# Altium schematic symbol library CHXXX.schlib: 489 symbols (part 3 of 7)
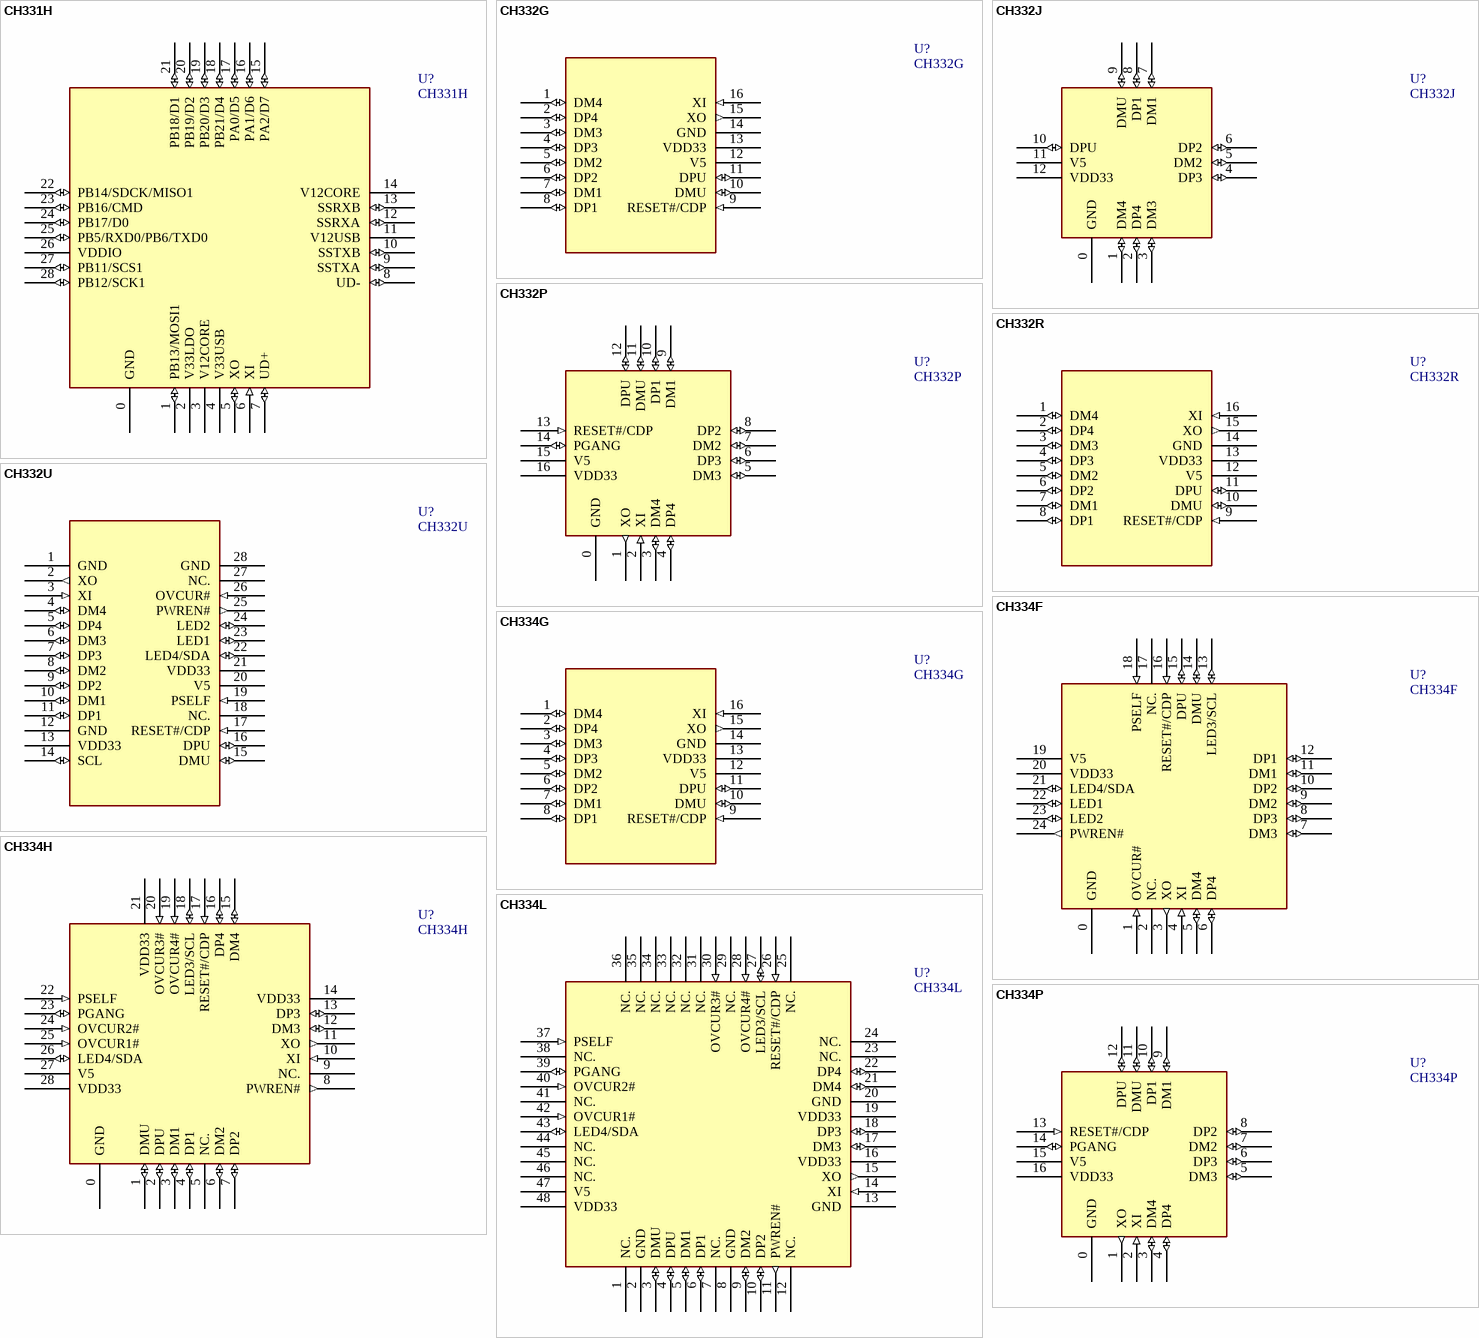
[diagram p64: symbols CH331H to CH334P]

## CH332P
designator U?
4 ports High-Speed USB STT Hub
footprint QFN16_3X3 (Footprint not found)
pins: 0 GND (power), 1 XO (out), 2 XI (in), 3 DM4 (io), 4 DP4 (io), 5 DM3 (io), 6 DP3 (io), 7 DM2 (io), 8 DP2 (io), 9 DM1 (io), 10 DP1 (io), 11 DMU (io), 12 DPU (io), 13 RESET#/CDP (in), 14 PGANG (io), 15 V5 (power), 16 VDD33 (power)
2 alternate drawings of the same symbol

## CH332R
designator U?
4 ports High-Speed USB STT Hub
footprint QSOP16 (Footprint not found)
pins: 1 DM4 (io), 2 DP4 (io), 3 DM3 (io), 4 DP3 (io), 5 DM2 (io), 6 DP2 (io), 7 DM1 (io), 8 DP1 (io), 9 RESET#/CDP (in), 10 DMU (io), 11 DPU (io), 12 V5 (power), 13 VDD33 (power), 14 GND (power), 15 XO (out), 16 XI (in)
2 alternate drawings of the same symbol

## CH332U
designator U?
4 ports High-Speed USB STT Hub with over current detect & power control
footprint QSOP28 (Footprint not found)
pins: 1 GND (power), 2 XO (out), 3 XI (in), 4 DM4 (io), 5 DP4 (io), 6 DM3 (io), 7 DP3 (io), 8 DM2 (io), 9 DP2 (io), 10 DM1 (io), 11 DP1 (io), 12 GND (power), 13 VDD33 (power), 14 SCL (io), 15 DMU (io), 16 DPU (io), 17 RESET#/CDP (in), 18 NC., 19 PSELF (in), 20 V5 (power), 21 VDD33 (power), 22 LED4/SDA (io), 23 LED1 (io), 24 LED2 (io), 25 PWREN# (out), 26 OVCUR# (in), 27 NC., 28 GND (power)
2 alternate drawings of the same symbol

## CH334F
designator U?
4 ports High-Speed USB MTT Hub with over current detect & power control
footprint QFN24_4X4 (Footprint not found)
pins: 0 GND (power), 1 OVCUR# (in), 2 NC., 3 XO (out), 4 XI (in), 5 DM4 (io), 6 DP4 (io), 7 DM3 (io), 8 DP3 (io), 9 DM2 (io), 10 DP2 (io), 11 DM1 (io), 12 DP1 (io), 13 LED3/SCL (io), 14 DMU (io), 15 DPU (io), 16 RESET#/CDP (in), 17 NC., 18 PSELF (in), 19 V5 (power), 20 VDD33 (power), 21 LED4/SDA (io), 22 LED1 (io), 23 LED2 (io), 24 PWREN# (out)
2 alternate drawings of the same symbol

## CH334G
designator U?
4 ports High-Speed USB STT Hub
footprint SOP16 (Footprint not found)
pins: 1 DM4 (io), 2 DP4 (io), 3 DM3 (io), 4 DP3 (io), 5 DM2 (io), 6 DP2 (io), 7 DM1 (io), 8 DP1 (io), 9 RESET#/CDP (in), 10 DMU (io), 11 DPU (io), 12 V5 (power), 13 VDD33 (power), 14 GND (power), 15 XO (out), 16 XI (in)
2 alternate drawings of the same symbol

## CH334H
designator U?
4 ports High-Speed USB MTT Hub with 4 over current detect
footprint QFN28_5X5 (Footprint not found)
pins: 0 GND (power), 1 DMU (io), 2 DPU (io), 3 DM1 (io), 4 DP1 (io), 5 NC., 6 DM2 (io), 7 DP2 (io), 8 PWREN# (out), 9 NC., 10 XI (in), 11 XO (out), 12 DM3 (io), 13 DP3 (io), 14 VDD33 (power), 15 DM4 (io), 16 DP4 (io), 17 RESET#/CDP (in), 18 LED3/SCL (io), 19 OVCUR4# (in), 20 OVCUR3# (in), 21 VDD33 (power), 22 PSELF (in), 23 PGANG (io), 24 OVCUR2# (in), 25 OVCUR1# (in), 26 LED4/SDA (io), 27 V5 (power), 28 VDD33 (power)
2 alternate drawings of the same symbol

## CH334L
designator U?
4 ports High-Speed USB MTT Hub with 4 over current detect
footprint LQFP48 (Footprint not found)
pins: 1 NC., 2 GND (power), 3 DMU (io), 4 DPU (io), 5 DM1 (io), 6 DP1 (io), 7 NC., 8 GND (power), 9 DM2 (io), 10 DP2 (io), 11 PWREN# (out), 12 NC., 13 GND (power), 14 XI (in), 15 XO (out), 16 VDD33 (power), 17 DM3 (io), 18 DP3 (io), 19 VDD33 (power), 20 GND (power), 21 DM4 (io), 22 DP4 (io), 23 NC., 24 NC., 25 NC., 26 RESET#/CDP (in), 27 LED3/SCL (io), 28 OVCUR4# (in), 29 NC., 30 OVCUR3# (in), 31 NC., 32 NC., 33 NC., 34 NC., 35 NC., 36 NC., 37 PSELF (in), 38 NC., 39 PGANG (io), 40 OVCUR2# (in), 41 NC., 42 OVCUR1# (in), 43 LED4/SDA (io), 44 NC., 45 NC., 46 NC., 47 V5 (power), 48 VDD33 (power)
2 alternate drawings of the same symbol

## CH334P
designator U?
4 ports High-Speed USB MTT Hub
footprint QFN16_3X3 (Footprint not found)
pins: 0 GND (power), 1 XO (out), 2 XI (in), 3 DM4 (io), 4 DP4 (io), 5 DM3 (io), 6 DP3 (io), 7 DM2 (io), 8 DP2 (io), 9 DM1 (io), 10 DP1 (io), 11 DMU (io), 12 DPU (io), 13 RESET#/CDP (in), 14 PGANG (io), 15 V5 (power), 16 VDD33 (power)
2 alternate drawings of the same symbol

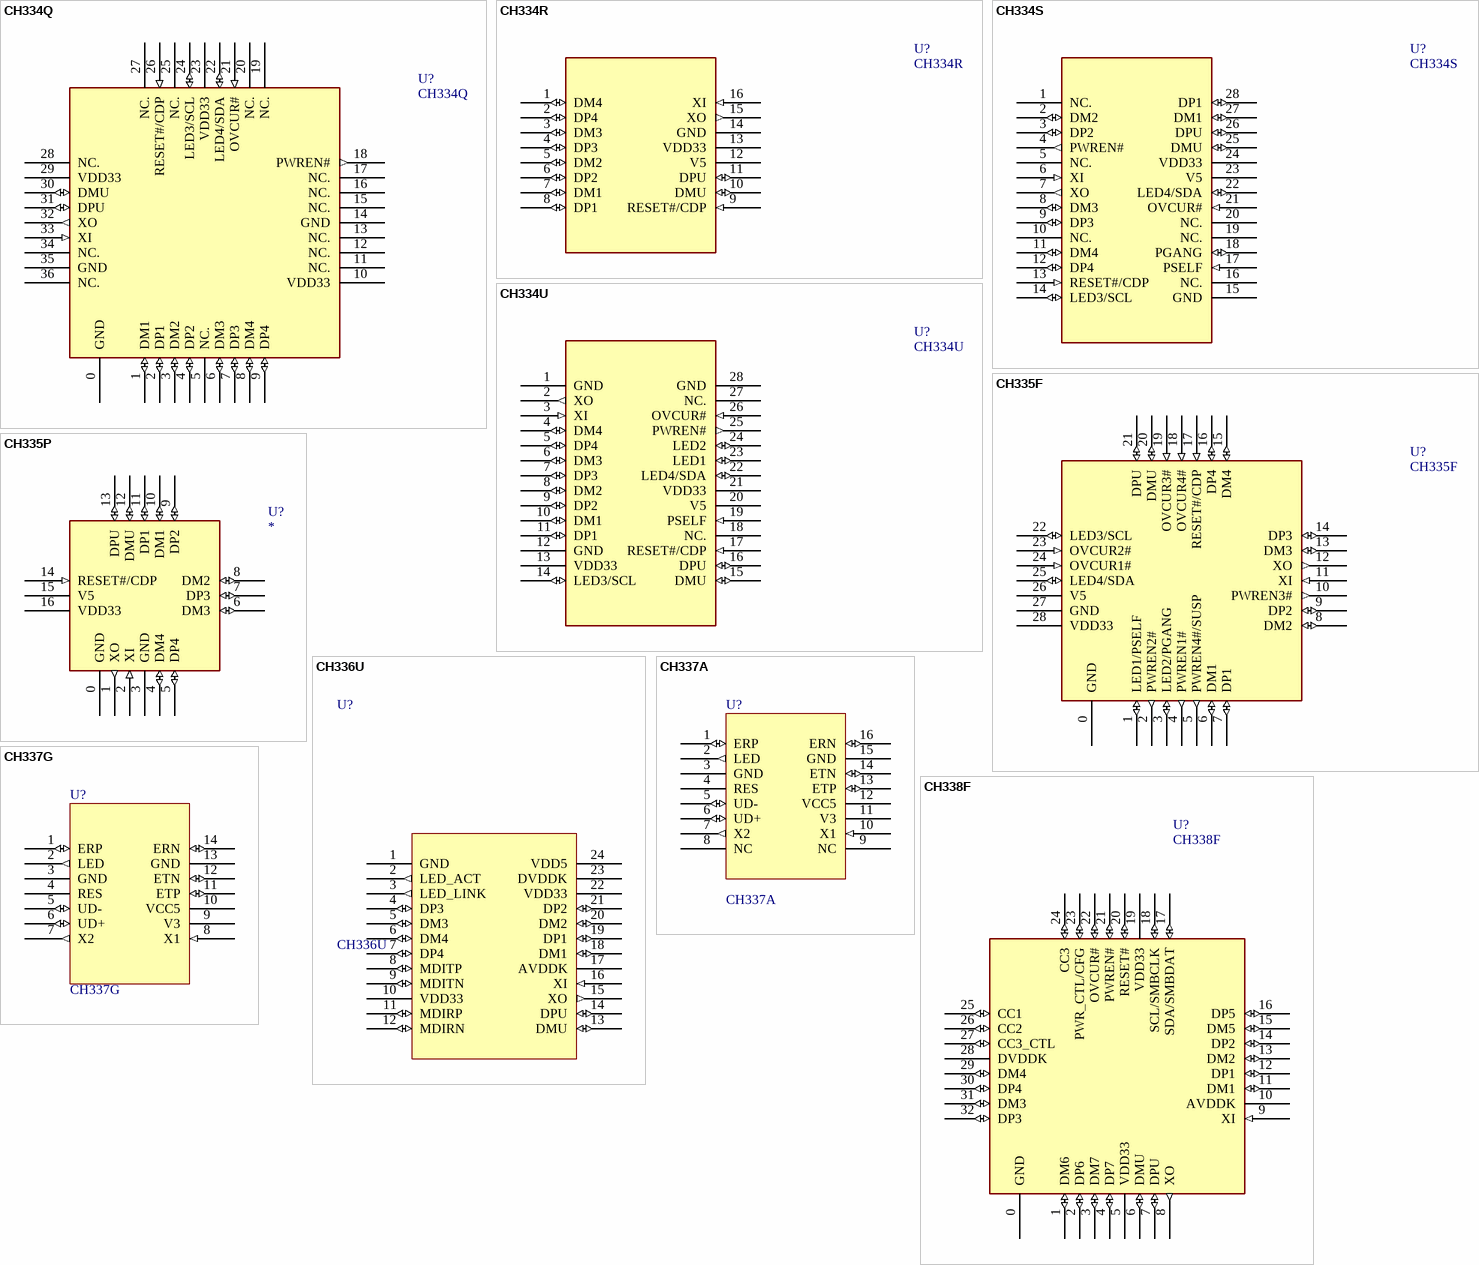
[diagram p19: symbols CH334Q to CH338F]

## CH334Q
designator U?
4 ports High-Speed USB MTT Hub with over current detect & power control
footprint QFN36_6X6
pins: 0 GND (power), 1 DM1 (io), 2 DP1 (io), 3 DM2 (io), 4 DP2 (io), 5 NC., 6 DM3 (io), 7 DP3 (io), 8 DM4 (io), 9 DP4 (io), 10 VDD33 (power), 11 NC., 12 NC., 13 NC., 14 GND (power), 15 NC., 16 NC., 17 NC., 18 PWREN# (out), 19 NC., 20 NC., 21 OVCUR# (in), 22 LED4/SDA (io), 23 VDD33 (power), 24 LED3/SCL (io), 25 NC., 26 RESET#/CDP (in), 27 NC., 28 NC., 29 VDD33 (power), 30 DMU (io), 31 DPU (io), 32 XO (out), 33 XI (in), 34 NC., 35 GND (power), 36 NC.
2 alternate drawings of the same symbol

## CH334R
designator U?
4 ports High-Speed USB MTT Hub
footprint QSOP16 (Footprint not found)
pins: 1 DM4 (io), 2 DP4 (io), 3 DM3 (io), 4 DP3 (io), 5 DM2 (io), 6 DP2 (io), 7 DM1 (io), 8 DP1 (io), 9 RESET#/CDP (in), 10 DMU (io), 11 DPU (io), 12 V5 (power), 13 VDD33 (power), 14 GND (power), 15 XO (out), 16 XI (in)
2 alternate drawings of the same symbol

## CH334S
designator U?
4 ports High-Speed USB MTT Hub with over current detect & power control
footprint SSOP28 (Footprint not found)
pins: 1 NC., 2 DM2 (io), 3 DP2 (io), 4 PWREN# (out), 5 NC., 6 XI (in), 7 XO (out), 8 DM3 (io), 9 DP3 (io), 10 NC., 11 DM4 (io), 12 DP4 (io), 13 RESET#/CDP (in), 14 LED3/SCL (io), 15 GND (power), 16 NC., 17 PSELF (in), 18 PGANG (io), 19 NC., 20 NC., 21 OVCUR# (in), 22 LED4/SDA (io), 23 V5 (power), 24 VDD33 (power), 25 DMU (io), 26 DPU (io), 27 DM1 (io), 28 DP1 (io)
2 alternate drawings of the same symbol

## CH334U
designator U?
4 ports High-Speed USB MTT Hub with over current detect & power control
footprint QSOP28 (Footprint not found)
pins: 1 GND (power), 2 XO (out), 3 XI (in), 4 DM4 (io), 5 DP4 (io), 6 DM3 (io), 7 DP3 (io), 8 DM2 (io), 9 DP2 (io), 10 DM1 (io), 11 DP1 (io), 12 GND (power), 13 VDD33 (power), 14 LED3/SCL (io), 15 DMU (io), 16 DPU (io), 17 RESET#/CDP (in), 18 NC., 19 PSELF (in), 20 V5 (power), 21 VDD33 (power), 22 LED4/SDA (io), 23 LED1 (io), 24 LED2 (io), 25 PWREN# (out), 26 OVCUR# (in), 27 NC., 28 GND (power)
2 alternate drawings of the same symbol

## CH335F
designator U?
4 ports High-Speed USB MTT Hub with 4 over current detect & power control
footprint QFN28_4X4
pins: 0 GND (power), 1 LED1/PSELF (io), 2 PWREN2# (out), 3 LED2/PGANG (io), 4 PWREN1# (out), 5 PWREN4#/SUSP (out), 6 DM1 (io), 7 DP1 (io), 8 DM2 (io), 9 DP2 (io), 10 PWREN3# (out), 11 XI (in), 12 XO (out), 13 DM3 (io), 14 DP3 (io), 15 DM4 (io), 16 DP4 (io), 17 RESET#/CDP (in), 18 OVCUR4# (in), 19 OVCUR3# (in), 20 DMU (io), 21 DPU (io), 22 LED3/SCL (io), 23 OVCUR2# (in), 24 OVCUR1# (in), 25 LED4/SDA (io), 26 V5 (power), 27 GND (power), 28 VDD33 (power)
2 alternate drawings of the same symbol

## CH335P
designator U?
4 ports High-Speed USB MTT Hub with internal oscillator
footprint QFN16C_2X2
pins: 0 GND (power), 1 XO (out), 2 XI (in), 3 GND (power), 4 DM4 (io), 5 DP4 (io), 6 DM3 (io), 7 DP3 (io), 8 DM2 (io), 9 DP2 (io), 10 DM1 (io), 11 DP1 (io), 12 DMU (io), 13 DPU (io), 14 RESET#/CDP (in), 15 V5 (power), 16 VDD33 (power)
2 alternate drawings of the same symbol

## CH336U
designator U?
4 ports High-Speed USB MTT Hub with ethernet
footprint QSOP24
pins: 1 GND (power), 2 LED_ACT (out), 3 LED_LINK (out), 4 DP3 (io), 5 DM3 (io), 6 DM4 (io), 7 DP4 (io), 8 MDITP (io), 9 MDITN (io), 10 VDD33 (power), 11 MDIRP (io), 12 MDIRN (io), 13 DMU (io), 14 DPU (io), 15 XO (out), 16 XI (in), 17 AVDDK (power), 18 DM1 (io), 19 DP1 (io), 20 DM2 (io), 21 DP2 (io), 22 VDD33 (power), 23 DVDDK (power), 24 VDD5 (power)
2 alternate drawings of the same symbol

## CH337A
designator U?
USB to 10Mbps Ethernet
footprint SOP16
pins: 1 ERP (io), 2 LED (out), 3 GND (power), 4 RES, 5 UD- (io), 6 UD+ (io), 7 X2 (out), 8 NC, 9 NC, 10 X1 (in), 11 V3 (power), 12 VCC5 (power), 13 ETP (io), 14 ETN (io), 15 GND (power), 16 ERN (io)

## CH337G
designator U?
USB to 10Mbps Ethernet
footprint SOP14
pins: 1 ERP (io), 2 LED (out), 3 GND (power), 4 RES, 5 UD- (io), 6 UD+ (io), 7 X2 (out), 8 X1 (in), 9 V3 (power), 10 VCC5 (power), 11 ETP (io), 12 ETN (io), 13 GND (power), 14 ERN (io)

## CH338F
designator U?
7 ports High-Speed USB MTT Hub with PD
footprint QFN32_4X4
pins: 0 GND (power), 1 DM6 (io), 2 DP6 (io), 3 DM7 (io), 4 DP7 (io), 5 VDD33 (power), 6 DMU (io), 7 DPU (io), 8 XO (out), 9 XI (in), 10 AVDDK (power), 11 DM1 (io), 12 DP1 (io), 13 DM2 (io), 14 DP2 (io), 15 DM5 (io), 16 DP5 (io), 17 SDA/SMBDAT (io), 18 SCL/SMBCLK (io), 19 VDD33 (power), 20 RESET# (io), 21 PWREN# (io), 22 OVCUR# (io), 23 PWR_CTL/CFG (io), 24 CC3 (io), 25 CC1 (io), 26 CC2 (io), 27 CC3_CTL (io), 28 DVDDK (power), 29 DM4 (io), 30 DP4 (io), 31 DM3 (io), 32 DP3 (io)

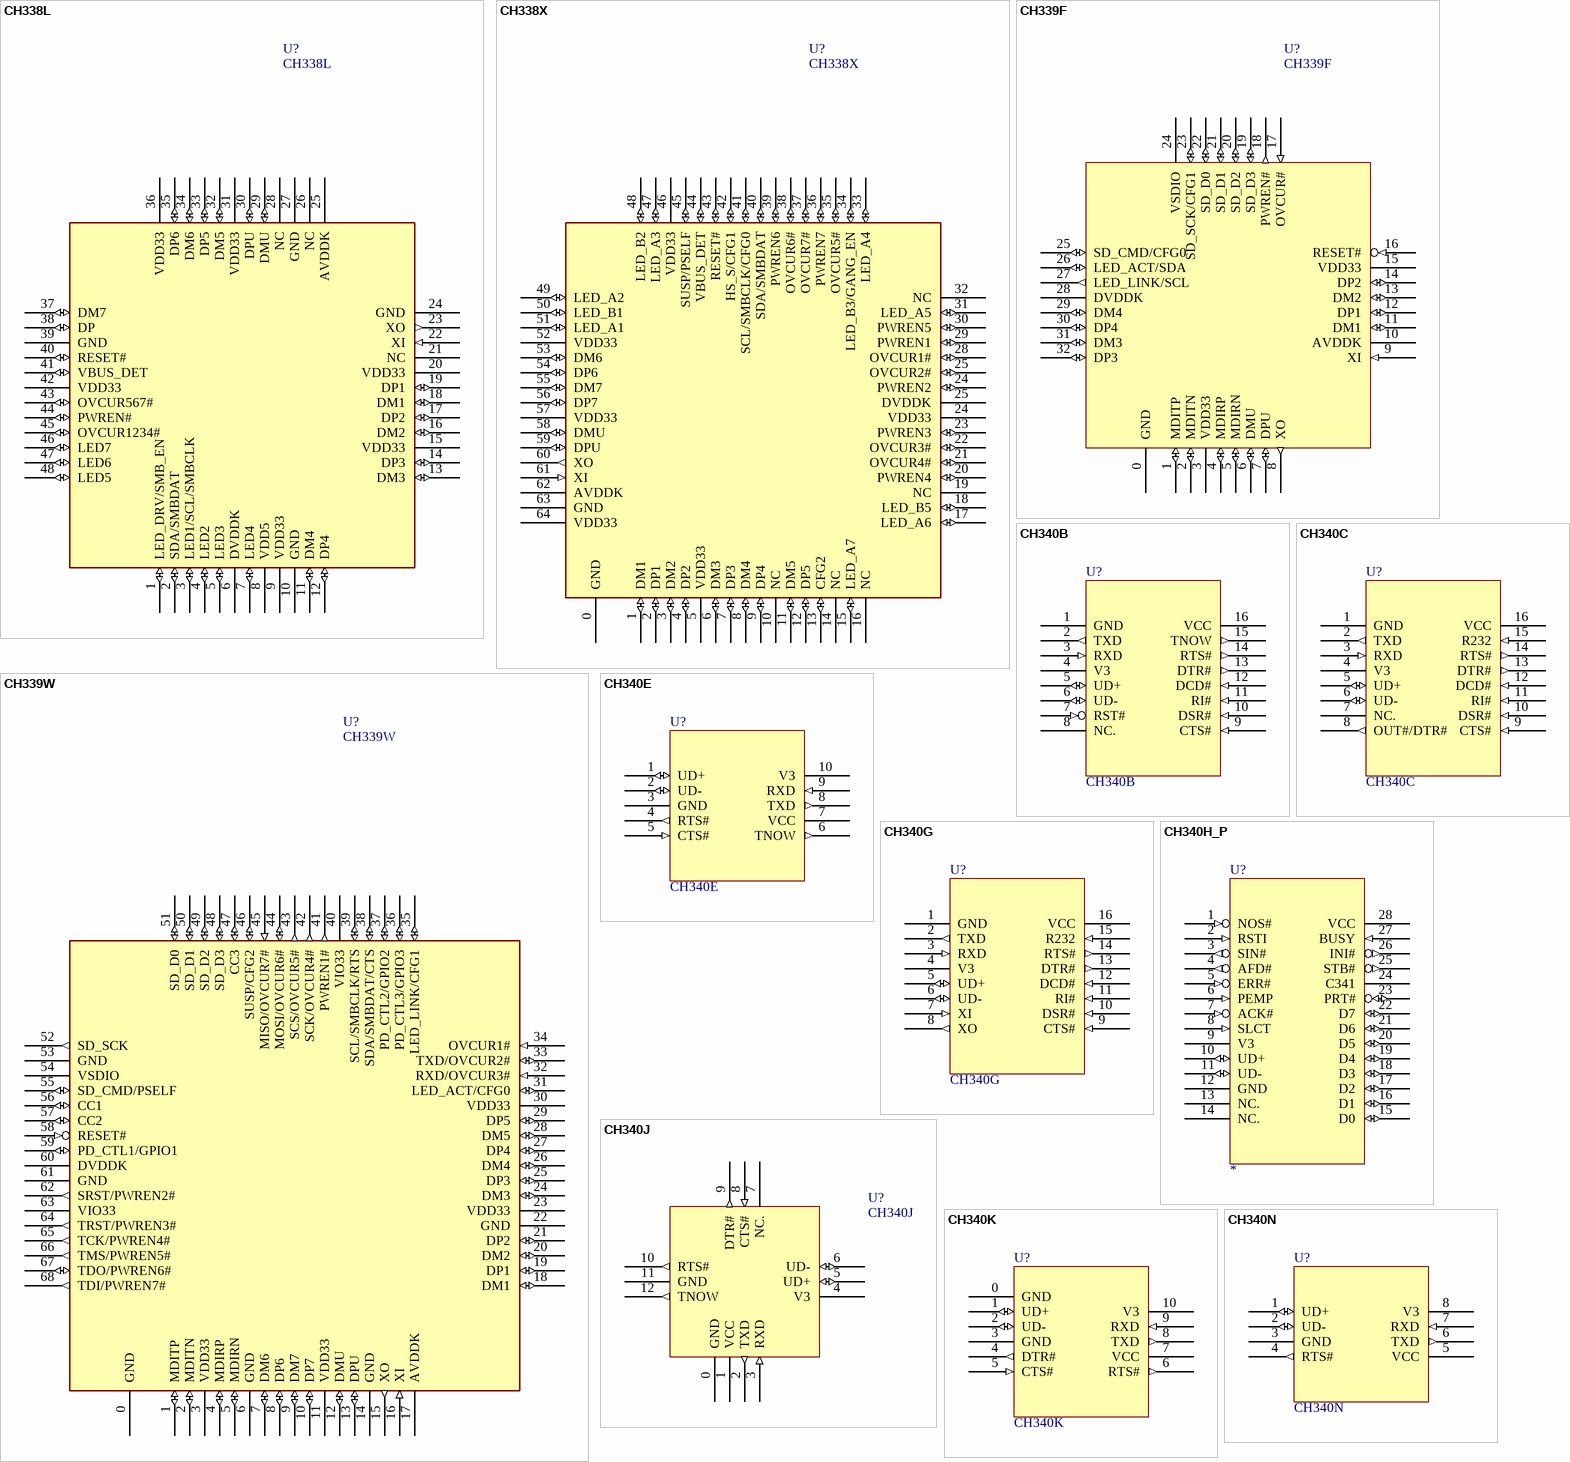
[diagram p20: symbols CH338L to CH340N]

## CH338L
designator U?
7 ports High-Speed USB MTT Hub
footprint LQFP48
pins: 1 LED_DRV/SMB_EN (io), 2 SDA/SMBDAT (io), 3 LED1/SCL/SMBCLK (io), 4 LED2 (io), 5 LED3 (io), 6 DVDDK (power), 7 LED4 (io), 8 VDD5 (power), 9 VDD33 (power), 10 GND (power), 11 DM4 (io), 12 DP4 (io), 13 DM3 (io), 14 DP3 (io), 15 VDD33 (power), 16 DM2 (io), 17 DP2 (io), 18 DM1 (io), 19 DP1 (io), 20 VDD33 (power), 21 NC, 22 XI (in), 23 XO (out), 24 GND (power), 25 AVDDK (power), 26 NC, 27 GND (power), 28 NC, 29 DMU (io), 30 DPU (io), 31 VDD33 (power), 32 DM5 (io), 33 DP5 (io), 34 DM6 (io), 35 DP6 (io), 36 VDD33 (power), 37 DM7 (io), 38 DP (io), 39 GND (power), 40 RESET# (io), 41 VBUS_DET (io), 42 VDD33 (power), 43 OVCUR567# (io), 44 PWREN# (io), 45 OVCUR1234# (io), 46 LED7 (io), 47 LED6 (io), 48 LED5 (io)

## CH338X
designator U?
7 ports High-Speed USB MTT Hub
footprint QFN64_9X9
pins: 0 GND (power), 1 DM1 (io), 2 DP1 (io), 3 DM2 (io), 4 DP2 (io), 5 VDD33 (power), 6 DM3 (io), 7 DP3 (io), 8 DM4 (io), 9 DP4 (io), 10 NC, 11 DM5 (io), 12 DP5 (io), 13 CFG2 (io), 14 NC, 15 LED_A7 (io), 16 NC, 17 LED_A6 (io), 18 LED_B5 (io), 19 NC, 20 PWREN4 (io), 21 OVCUR4# (io), 22 OVCUR3# (io), 23 PWREN3 (io), 24 VDD33 (power), 24 PWREN2 (io), 25 DVDDK (power), 25 OVCUR2# (io), 28 OVCUR1# (io), 29 PWREN1 (io), 30 PWREN5 (io), 31 LED_A5 (io), 32 NC, 33 LED_A4 (io), 34 LED_B3/GANG_EN (io), 35 OVCUR5# (io), 36 PWREN7 (io), 37 OVCUR7# (io), 38 OVCUR6# (io), 39 PWREN6 (io), 40 SDA/SMBDAT (io), 41 SCL/SMBCLK/CFG0 (io), 42 HS_S/CFG1 (io), 43 RESET# (io), 44 VBUS_DET (io), 45 SUSP/PSELF (io), 46 VDD33 (power), 47 LED_A3 (io), 48 LED_B2 (io), 49 LED_A2 (io), 50 LED_B1 (io), 51 LED_A1 (io), 52 VDD33 (power), 53 DM6 (io), 54 DP6 (io), 55 DM7 (io), 56 DP7 (io), 57 VDD33 (power), 58 DMU (io), 59 DPU (io), 60 XO (out), 61 XI (in), 62 AVDDK (power), 63 GND (power), 64 VDD33 (power)

## CH339F
designator U?
4 ports High-Speed USB MTT Hub with SDIO & ethernet
footprint QFN32_4X4
pins: 0 GND (power), 1 MDITP (io), 2 MDITN (io), 3 VDD33 (power), 4 MDIRP (io), 5 MDIRN (io), 6 DMU (io), 7 DPU (io), 8 XO (out), 9 XI (in), 10 AVDDK (power), 11 DM1 (io), 12 DP1 (io), 13 DM2 (io), 14 DP2 (io), 15 VDD33 (power), 16 RESET# (in), 17 OVCUR# (in), 18 PWREN# (out), 19 SD_D3 (io), 20 SD_D2 (io), 21 SD_D1 (io), 22 SD_D0 (io), 23 SD_SCK/CFG1 (io), 24 VSDIO (power), 25 SD_CMD/CFG0 (io), 26 LED_ACT/SDA (io), 27 LED_LINK/SCL (out), 28 DVDDK (power), 29 DM4 (io), 30 DP4 (io), 31 DM3 (io), 32 DP3 (io)
2 alternate drawings of the same symbol

## CH339W
designator U?
7 ports High-Speed USB MTT Hub with PD & SDIO & ethernet
footprint QFN68_8X8
pins: 0 GND (power), 1 MDITP (io), 2 MDITN (io), 3 VDD33 (power), 4 MDIRP (io), 5 MDIRN (io), 6 GND (power), 7 DM6 (io), 8 DP6 (io), 9 DM7 (io), 10 DP7 (io), 11 VDD33 (power), 12 DMU (io), 13 DPU (io), 14 GND (power), 15 XO (out), 16 XI (in), 17 AVDDK (power), 18 DM1 (io), 19 DP1 (io), 20 DM2 (io), 21 DP2 (io), 22 GND (power), 23 VDD33 (power), 24 DM3 (io), 25 DP3 (io), 26 DM4 (io), 27 DP4 (io), 28 DM5 (io), 29 DP5 (io), 30 VDD33 (power), 31 LED_ACT/CFG0 (io), 32 RXD/OVCUR3# (in), 33 TXD/OVCUR2# (io), 34 OVCUR1# (in), 35 LED_LINK/CFG1 (io), 36 PD_CTL3/GPIO3 (io), 37 PD_CTL2/GPIO2 (io), 38 SDA/SMBDAT/CTS (io), 39 SCL/SMBCLK/RTS (io), 40 VIO33 (power), 41 PWREN1# (out), 42 SCK/OVCUR4# (out), 43 SCS/OVCUR5# (out), 44 MOSI/OVCUR6# (io), 45 MISO/OVCUR7# (in), 46 SUSP/CFG2 (io), 47 CC3 (io), 48 SD_D3 (io), 49 SD_D2 (io), 50 SD_D1 (io), 51 SD_D0 (io), 52 SD_SCK (out), 53 GND (power), 54 VSDIO (power), 55 SD_CMD/PSELF (io), 56 CC1 (io), 57 CC2 (io), 58 RESET# (in), 59 PD_CTL1/GPIO1 (io), 60 DVDDK (power), 61 GND (power), 62 SRST/PWREN2# (out), 63 VIO33 (power), 64 TRST/PWREN3# (out), 65 TCK/PWREN4# (out), 66 TMS/PWREN5# (out), 67 TDO/PWREN6# (io), 68 TDI/PWREN7# (out)
2 alternate drawings of the same symbol

## CH340B
designator U?
USB to TTL Serial / UART, Integrated clock
footprint SOP16
pins: 1 GND (power), 2 TXD (out), 3 RXD (in), 4 V3 (power), 5 UD+ (io), 6 UD- (io), 7 RST# (in), 8 NC., 9 CTS# (in), 10 DSR# (in), 11 RI# (in), 12 DCD# (in), 13 DTR# (out), 14 RTS# (out), 15 TNOW (out), 16 VCC (power)

## CH340C
designator U?
USB to TTL Serial / UART
footprint SOP16
pins: 1 GND (power), 2 TXD (out), 3 RXD (in), 4 V3 (power), 5 UD+ (io), 6 UD- (io), 7 NC., 8 OUT#/DTR# (out), 9 CTS# (in), 10 DSR# (in), 11 RI# (in), 12 DCD# (in), 13 DTR# (out), 14 RTS# (out), 15 R232 (in), 16 VCC (power)

## CH340E
designator U?
USB to TTL Serial / UART
footprint MSOP10
pins: 1 UD+ (io), 2 UD- (io), 3 GND (power), 4 RTS# (out), 5 CTS# (in), 6 TNOW (out), 7 VCC (power), 8 TXD (out), 9 RXD (in), 10 V3 (power)

## CH340G
designator U?
USB to TTL Serial / UART
footprint SOP16
pins: 1 GND (power), 2 TXD (out), 3 RXD (in), 4 V3 (power), 5 UD+ (io), 6 UD- (io), 7 XI (in), 8 XO (out), 9 CTS# (in), 10 DSR# (in), 11 RI# (in), 12 DCD# (in), 13 DTR# (out), 14 RTS# (out), 15 R232 (in), 16 VCC (power)

## CH340H_P
designator U?
USB to Print Port / Parallel
footprint SOP28
footprint DIP28
pins: 1 NOS# (in), 2 RSTI (in), 3 SIN# (out), 4 AFD# (out), 5 ERR# (in), 6 PEMP (in), 7 ACK# (in), 8 SLCT (in), 9 V3 (power), 10 UD+ (io), 11 UD- (io), 12 GND (power), 13 NC., 14 NC., 15 D0 (io), 16 D1 (io), 17 D2 (io), 18 D3 (io), 19 D4 (io), 20 D5 (io), 21 D6 (io), 22 D7 (io), 23 PRT# (io), 24 C341, 25 STB# (out), 26 INI# (out), 27 BUSY (in), 28 VCC (power)

## CH340J
designator U?
USB to TTL Serial / UART
footprint QFN12_2X2
pins: 0 GND (power), 1 VCC (power), 2 TXD (out), 3 RXD (in), 4 V3 (power), 5 UD+ (io), 6 UD- (io), 7 NC., 8 CTS# (in), 9 DTR# (out), 10 RTS# (out), 11 GND (power), 12 TNOW (out)

## CH340K
designator U?
USB to TTL Serial / UART for dual power
footprint ESSOP10
pins: 0 GND (power), 1 UD+ (io), 2 UD- (io), 3 GND (power), 4 DTR# (out), 5 CTS# (in), 6 RTS# (out), 7 VCC (power), 8 TXD (out), 9 RXD (in), 10 V3 (power)

## CH340N
designator U?
USB to TTL Serial / UART
footprint SOP8
pins: 1 UD+ (io), 2 UD- (io), 3 GND (power), 4 RTS# (out), 5 VCC (power), 6 TXD (out), 7 RXD (in), 8 V3 (power)

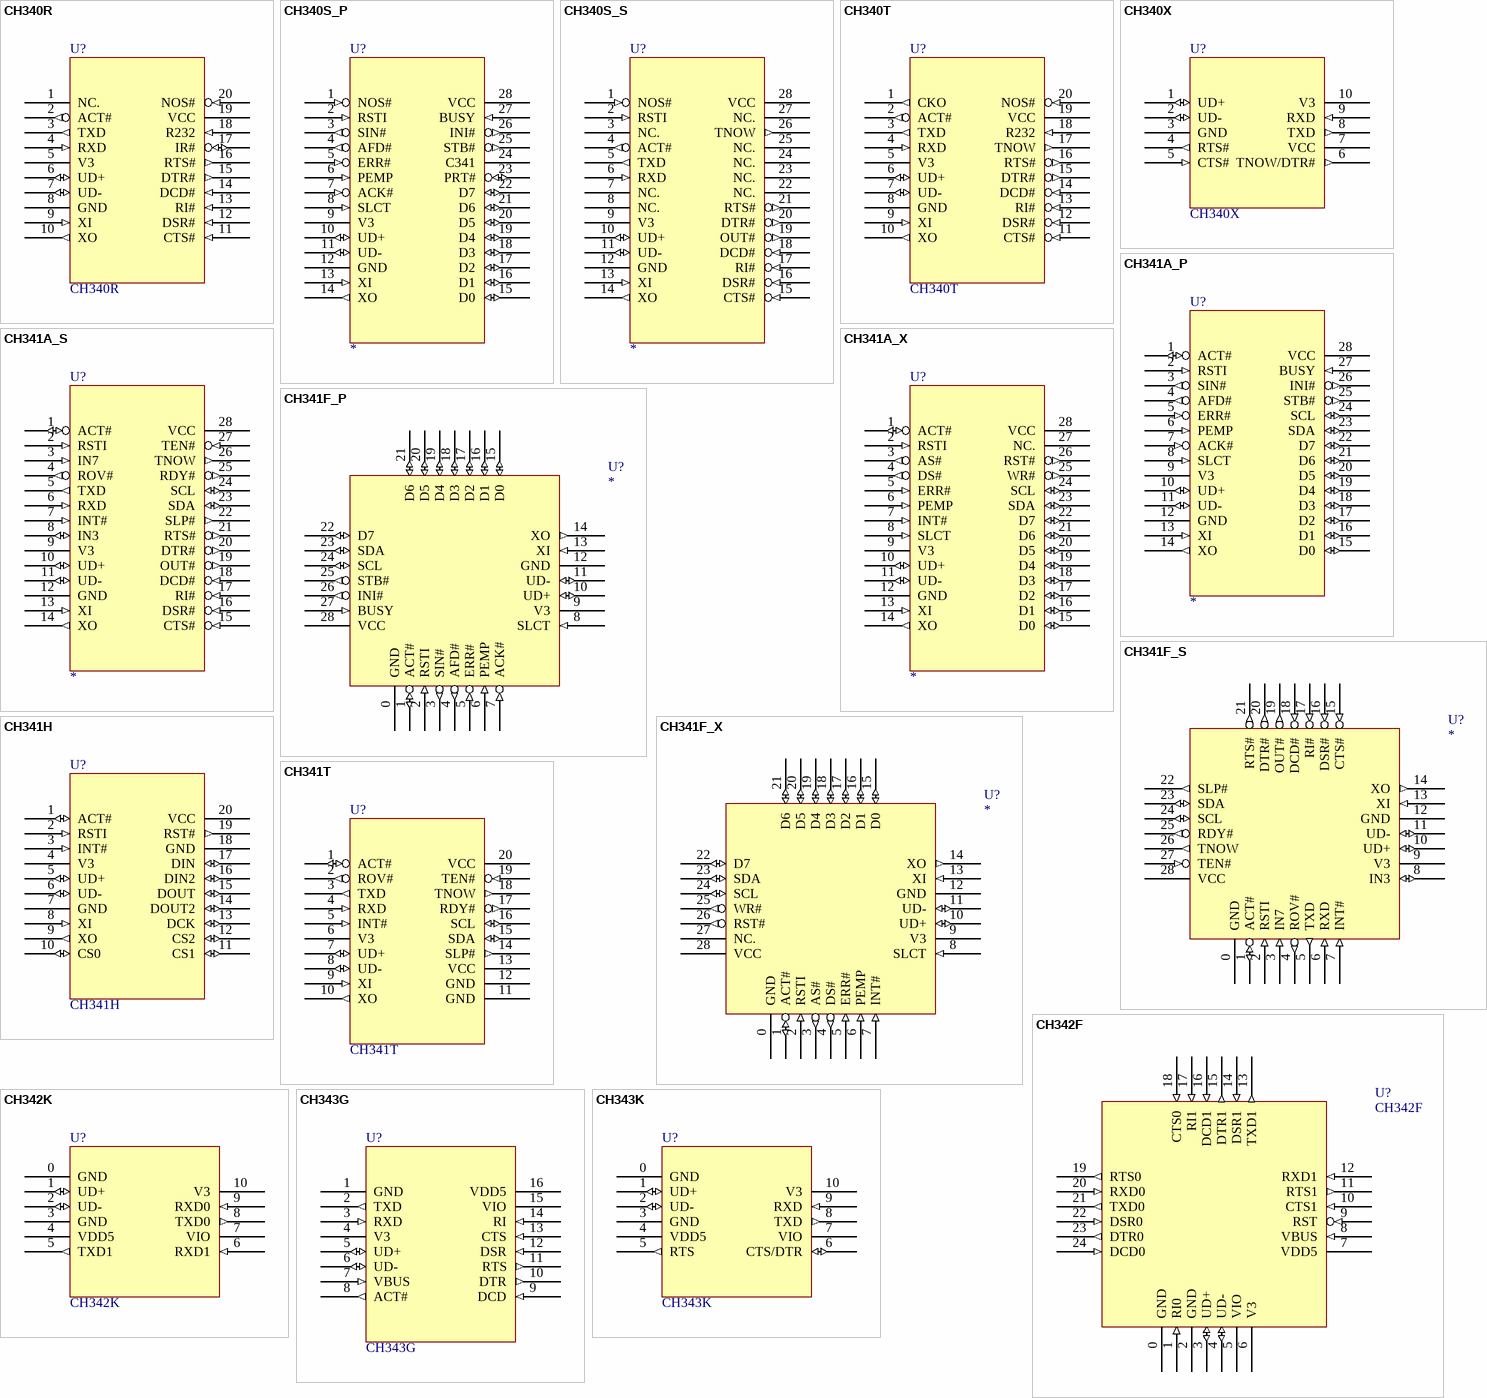
[diagram p21: symbols CH340R to CH343K]

## CH340R
designator U?
USB to IrDA, USB to RS232 Serial
footprint SSOP20
pins: 1 NC., 2 ACT# (out), 3 TXD (out), 4 RXD (in), 5 V3 (power), 6 UD+ (io), 7 UD- (io), 8 GND (power), 9 XI (in), 10 XO (out), 11 CTS# (in), 12 DSR# (in), 13 RI# (in), 14 DCD# (in), 15 DTR# (out), 16 RTS# (out), 17 IR# (io), 18 R232 (in), 19 VCC (power), 20 NOS# (in)

## CH340S_P
designator U?
USB to Print Port / Parallel
footprint SOP28
footprint DIP28
pins: 1 NOS# (in), 2 RSTI (in), 3 SIN# (out), 4 AFD# (out), 5 ERR# (in), 6 PEMP (in), 7 ACK# (in), 8 SLCT (in), 9 V3 (power), 10 UD+ (io), 11 UD- (io), 12 GND (power), 13 XI (in), 14 XO (out), 15 D0 (io), 16 D1 (io), 17 D2 (io), 18 D3 (io), 19 D4 (io), 20 D5 (io), 21 D6 (io), 22 D7 (io), 23 PRT# (io), 24 C341, 25 STB# (out), 26 INI# (out), 27 BUSY (in), 28 VCC (power)

## CH340S_S
designator U?
USB to TTL Serial / UART, pin compatible with CH341
footprint SOP28
footprint DIP28
pins: 1 NOS# (in), 2 RSTI (in), 3 NC., 4 ACT# (out), 5 TXD (out), 6 RXD (in), 7 NC., 8 NC., 9 V3 (power), 10 UD+ (io), 11 UD- (io), 12 GND (power), 13 XI (in), 14 XO (out), 15 CTS# (in), 16 DSR# (in), 17 RI# (in), 18 DCD# (in), 19 OUT# (out), 20 DTR# (out), 21 RTS# (out), 22 NC., 23 NC., 24 NC., 25 NC., 26 TNOW (out), 27 NC., 28 VCC (power)

## CH340T
designator U?
USB to TTL Serial / UART,  USB to IrDA
footprint SSOP20
pins: 1 CKO (out), 2 ACT# (out), 3 TXD (out), 4 RXD (in), 5 V3 (power), 6 UD+ (io), 7 UD- (io), 8 GND (power), 9 XI (in), 10 XO (out), 11 CTS# (in), 12 DSR# (in), 13 RI# (in), 14 DCD# (in), 15 DTR# (out), 16 RTS# (out), 17 TNOW (out), 18 R232 (in), 19 VCC (power), 20 NOS# (in)

## CH340X
designator U?
USB to TTL Serial / UART
footprint MSOP10
pins: 1 UD+ (io), 2 UD- (io), 3 GND (power), 4 RTS# (out), 5 CTS# (in), 6 TNOW/DTR# (out), 7 VCC (power), 8 TXD (out), 9 RXD (in), 10 V3 (power)

## CH341A_P
designator U?
USB to Print Port / Parallel
footprint SOP28
footprint TSSOP28
footprint DIP28
pins: 1 ACT# (io), 2 RSTI (in), 3 SIN# (out), 4 AFD# (out), 5 ERR# (in), 6 PEMP (in), 7 ACK# (in), 8 SLCT (in), 9 V3 (power), 10 UD+ (io), 11 UD- (io), 12 GND (power), 13 XI (in), 14 XO (out), 15 D0 (io), 16 D1 (io), 17 D2 (io), 18 D3 (io), 19 D4 (io), 20 D5 (io), 21 D6 (io), 22 D7 (io), 23 SDA (io), 24 SCL (io), 25 STB# (out), 26 INI# (out), 27 BUSY (in), 28 VCC (power)

## CH341A_S
designator U?
USB to TTL Serial / UART / I2C/IIC
footprint SOP28
footprint TSSOP28
footprint DIP28
pins: 1 ACT# (io), 2 RSTI (in), 3 IN7 (in), 4 ROV# (out), 5 TXD (out), 6 RXD (in), 7 INT# (in), 8 IN3 (io), 9 V3 (power), 10 UD+ (io), 11 UD- (io), 12 GND (power), 13 XI (in), 14 XO (out), 15 CTS# (in), 16 DSR# (in), 17 RI# (in), 18 DCD# (in), 19 OUT# (out), 20 DTR# (out), 21 RTS# (out), 22 SLP# (out), 23 SDA (io), 24 SCL (io), 25 RDY# (out), 26 TNOW (out), 27 TEN# (in), 28 VCC (power)

## CH341A_X
designator U?
USB to EPP Parallel / SPI / I2C/IIC
footprint SOP28
footprint TSSOP28
footprint DIP28
pins: 1 ACT# (io), 2 RSTI (in), 3 AS# (out), 4 DS# (out), 5 ERR# (in), 6 PEMP (in), 7 INT# (in), 8 SLCT (in), 9 V3 (power), 10 UD+ (io), 11 UD- (io), 12 GND (power), 13 XI (in), 14 XO (out), 15 D0 (io), 16 D1 (io), 17 D2 (io), 18 D3 (io), 19 D4 (io), 20 D5 (io), 21 D6 (io), 22 D7 (io), 23 SDA (io), 24 SCL (io), 25 WR# (out), 26 RST# (out), 27 NC., 28 VCC (power)

## CH341F_P
designator U?
USB to Print Port / Parallel
footprint QFN28_4X4
footprint DIP28
pins: 0 GND (power), 1 ACT# (io), 2 RSTI (in), 3 SIN# (out), 4 AFD# (out), 5 ERR# (in), 6 PEMP (in), 7 ACK# (in), 8 SLCT (in), 9 V3 (power), 10 UD+ (io), 11 UD- (io), 12 GND (power), 13 XI (in), 14 XO (out), 15 D0 (io), 16 D1 (io), 17 D2 (io), 18 D3 (io), 19 D4 (io), 20 D5 (io), 21 D6 (io), 22 D7 (io), 23 SDA (io), 24 SCL (io), 25 STB# (out), 26 INI# (out), 27 BUSY (in), 28 VCC (power)

## CH341F_S
designator U?
USB to TTL Serial / UART / I2C/IIC
footprint QFN28_4X4
footprint DIP28
pins: 0 GND (power), 1 ACT# (io), 2 RSTI (in), 3 IN7 (in), 4 ROV# (out), 5 TXD (out), 6 RXD (in), 7 INT# (in), 8 IN3 (io), 9 V3 (power), 10 UD+ (io), 11 UD- (io), 12 GND (power), 13 XI (in), 14 XO (out), 15 CTS# (in), 16 DSR# (in), 17 RI# (in), 18 DCD# (in), 19 OUT# (out), 20 DTR# (out), 21 RTS# (out), 22 SLP# (out), 23 SDA (io), 24 SCL (io), 25 RDY# (out), 26 TNOW (out), 27 TEN# (in), 28 VCC (power)

## CH341F_X
designator U?
USB to EPP Parallel / SPI / I2C/IIC
footprint QFN28_4X4
footprint DIP28
pins: 0 GND (power), 1 ACT# (io), 2 RSTI (in), 3 AS# (out), 4 DS# (out), 5 ERR# (in), 6 PEMP (in), 7 INT# (in), 8 SLCT (in), 9 V3 (power), 10 UD+ (io), 11 UD- (io), 12 GND (power), 13 XI (in), 14 XO (out), 15 D0 (io), 16 D1 (io), 17 D2 (io), 18 D3 (io), 19 D4 (io), 20 D5 (io), 21 D6 (io), 22 D7 (io), 23 SDA (io), 24 SCL (io), 25 WR# (out), 26 RST# (out), 27 NC., 28 VCC (power)

## CH341H
designator U?
USB to SPI
footprint SSOP20
pins: 1 ACT# (io), 2 RSTI (in), 3 INT# (in), 4 V3 (power), 5 UD+ (io), 6 UD- (io), 7 GND (power), 8 XI (in), 9 XO (out), 10 CS0 (io), 11 CS1 (io), 12 CS2 (io), 13 DCK (io), 14 DOUT2 (io), 15 DOUT (io), 16 DIN2 (io), 17 DIN (io), 18 GND (power), 19 RST# (out), 20 VCC (power)

## CH341T
designator U?
USB to TTL Serial / UART / I2C/IIC
footprint SSOP20
pins: 1 ACT# (io), 2 ROV# (out), 3 TXD (out), 4 RXD (in), 5 INT# (in), 6 V3 (power), 7 UD+ (io), 8 UD- (io), 9 XI (in), 10 XO (out), 11 GND (power), 12 GND (power), 13 VCC (power), 14 SLP# (out), 15 SDA (io), 16 SCL (io), 17 RDY# (out), 18 TNOW (out), 19 TEN# (in), 20 VCC (power)

## CH342F
designator U?
USB to dual enhanced TTL Serial / 2*UART
footprint QFN24_4X4
pins: 0 GND (power), 1 RI0 (in), 2 GND (power), 3 UD+ (io), 4 UD- (io), 5 VIO (power), 6 V3 (power), 7 VDD5 (power), 8 VBUS (in), 9 RST (in), 10 CTS1 (in), 11 RTS1 (out), 12 RXD1 (in), 13 TXD1 (out), 14 DSR1 (in), 15 DTR1 (out), 16 DCD1 (in), 17 RI1 (in), 18 CTS0 (in), 19 RTS0 (out), 20 RXD0 (in), 21 TXD0 (out), 22 DSR0 (in), 23 DTR0 (out), 24 DCD0 (in)

## CH342K
designator U?
USB to dual enhanced TTL Serial / 2*UART
footprint ESSOP10
pins: 0 GND (power), 1 UD+ (io), 2 UD- (io), 3 GND (power), 4 VDD5 (power), 5 TXD1 (out), 6 RXD1 (in), 7 VIO (power), 8 TXD0 (out), 9 RXD0 (in), 10 V3 (power)

## CH343G
designator U?
USB to high speed enhanced TTL Serial / UART
footprint SOP16
footprint DIP16
pins: 1 GND (power), 2 TXD (out), 3 RXD (in), 4 V3 (power), 5 UD+ (io), 6 UD- (io), 7 VBUS (in), 8 ACT# (out), 9 DCD (in), 10 DTR (out), 11 RTS (out), 12 DSR (in), 13 CTS (in), 14 RI (in), 15 VIO (power), 16 VDD5 (power)

## CH343K
designator U?
USB to high speed enhanced TTL Serial / UART
footprint ESSOP10
pins: 0 GND (power), 1 UD+ (io), 2 UD- (io), 3 GND (power), 4 VDD5 (power), 5 RTS (out), 6 CTS/DTR (io), 7 VIO (power), 8 TXD (out), 9 RXD (in), 10 V3 (power)

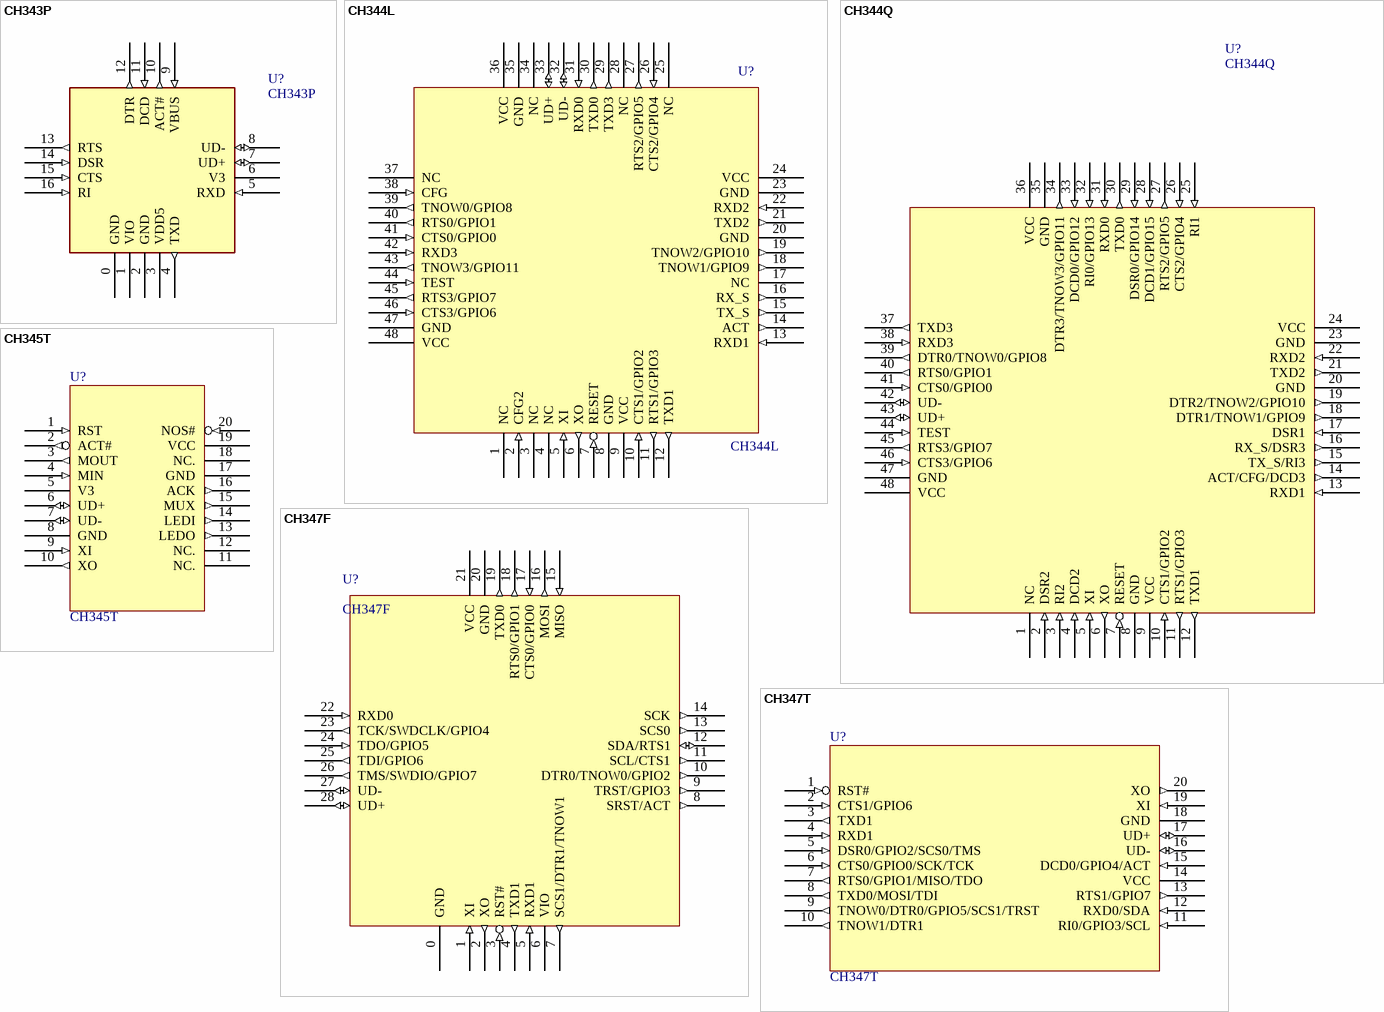
[diagram p22: symbols CH343P to CH347T]

## CH343P
designator U?
USB to high speed enhanced TTL Serial / UART
footprint QFN16_3X3 (Footprint not found)
pins: 0 GND (power), 1 VIO (power), 2 GND (power), 3 VDD5 (power), 4 TXD (out), 5 RXD (in), 6 V3 (power), 7 UD+ (io), 8 UD- (io), 9 VBUS (in), 10 ACT# (out), 11 DCD (in), 12 DTR (out), 13 RTS (out), 14 DSR (in), 15 CTS (in), 16 RI (in)

## CH344L
designator U?
USB to quad serial port / 4*UART
footprint LQFP48 (Footprint not found)
pins: 1 NC, 2 CFG2 (in), 3 NC, 4 NC, 5 XI (in), 6 XO (out), 7 RESET (in), 8 GND (power), 9 VCC (power), 10 CTS1/GPIO2 (in), 11 RTS1/GPIO3 (out), 12 TXD1 (out), 13 RXD1 (in), 14 ACT (out), 15 TX_S (out), 16 RX_S (out), 17 NC, 18 TNOW1/GPIO9 (out), 19 TNOW2/GPIO10 (out), 20 GND (power), 21 TXD2 (out), 22 RXD2 (in), 23 GND (power), 24 VCC (power), 25 NC, 26 CTS2/GPIO4 (in), 27 RTS2/GPIO5 (out), 28 NC, 29 TXD3 (out), 30 TXD0 (out), 31 RXD0 (in), 32 UD- (io), 33 UD+ (io), 34 NC, 35 GND (power), 36 VCC (power), 37 NC, 38 CFG (in), 39 TNOW0/GPIO8 (out), 40 RTS0/GPIO1 (out), 41 CTS0/GPIO0 (in), 42 RXD3 (in), 43 TNOW3/GPIO11 (out), 44 TEST (in), 45 RTS3/GPIO7 (out), 46 CTS3/GPIO6 (in), 47 GND (power), 48 VCC (power)

## CH344Q
designator U?
High Speed USB to quad serial port / 4*UART
footprint LQFP48 (Footprint not found)
pins: 1 NC, 2 DSR2 (in), 3 RI2 (in), 4 DCD2 (in), 5 XI (in), 6 XO (out), 7 RESET (in), 8 GND (power), 9 VCC (power), 10 CTS1/GPIO2 (in), 11 RTS1/GPIO3 (out), 12 TXD1 (out), 13 RXD1 (in), 14 ACT/CFG/DCD3 (out), 15 TX_S/RI3 (out), 16 RX_S/DSR3 (out), 17 DSR1 (in), 18 DTR1/TNOW1/GPIO9 (out), 19 DTR2/TNOW2/GPIO10 (out), 20 GND (power), 21 TXD2 (out), 22 RXD2 (in), 23 GND (power), 24 VCC (power), 25 RI1 (in), 26 CTS2/GPIO4 (in), 27 RTS2/GPIO5 (out), 28 DCD1/GPIO15 (in), 29 DSR0/GPIO14 (in), 30 TXD0 (out), 31 RXD0 (in), 32 RI0/GPIO13 (in), 33 DCD0/GPIO12 (in), 34 DTR3/TNOW3/GPIO11 (out), 35 GND (power), 36 VCC (power), 37 TXD3 (out), 38 RXD3 (in), 39 DTR0/TNOW0/GPIO8 (out), 40 RTS0/GPIO1 (out), 41 CTS0/GPIO0 (in), 42 UD- (io), 43 UD+ (io), 44 TEST (in), 45 RTS3/GPIO7 (out), 46 CTS3/GPIO6 (in), 47 GND (power), 48 VCC (power)

## CH345T
designator U?
USB to MIDI
footprint SSOP20
pins: 1 RST (in), 2 ACT# (out), 3 MOUT (out), 4 MIN (in), 5 V3 (power), 6 UD+ (io), 7 UD- (io), 8 GND (power), 9 XI (in), 10 XO (out), 11 NC., 12 NC., 13 LEDO (out), 14 LEDI (out), 15 MUX (out), 16 ACK (out), 17 GND (power), 18 NC., 19 VCC (power), 20 NOS# (in)

## CH347F
designator U?
High Speed USB to UART + SPI + IIC + JTAG
footprint QFN28_4X4
pins: 0 GND (power), 1 XI (in), 2 XO (out), 3 RST# (in), 4 TXD1 (out), 5 RXD1 (in), 6 VIO (power), 7 SCS1/DTR1/TNOW1 (out), 8 SRST/ACT (out), 9 TRST/GPIO3 (out), 10 DTR0/TNOW0/GPIO2 (out), 11 SCL/CTS1 (out), 12 SDA/RTS1 (io), 13 SCS0 (out), 14 SCK (out), 15 MISO (in), 16 MOSI (out), 17 CTS0/GPIO0 (in), 18 RTS0/GPIO1 (out), 19 TXD0 (out), 20 GND (power), 21 VCC (power), 22 RXD0 (in), 23 TCK/SWDCLK/GPIO4 (out), 24 TDO/GPIO5 (in), 25 TDI/GPIO6 (out), 26 TMS/SWDIO/GPIO7 (out), 27 UD- (io), 28 UD+ (io)

## CH347T
designator U?
High Speed USB to UART / SPI / IIC / JTAG
footprint TSSOP20
pins: 1 RST# (in), 2 CTS1/GPIO6 (in), 3 TXD1 (out), 4 RXD1 (in), 5 DSR0/GPIO2/SCS0/TMS (in), 6 CTS0/GPIO0/SCK/TCK (in), 7 RTS0/GPIO1/MISO/TDO (out), 8 TXD0/MOSI/TDI (out), 9 TNOW0/DTR0/GPIO5/SCS1/TRST (out), 10 TNOW1/DTR1 (out), 11 RI0/GPIO3/SCL (in), 12 RXD0/SDA (in), 13 RTS1/GPIO7 (out), 14 VCC (power), 15 DCD0/GPIO4/ACT (in), 16 UD- (io), 17 UD+ (io), 18 GND (power), 19 XI (in), 20 XO (out)

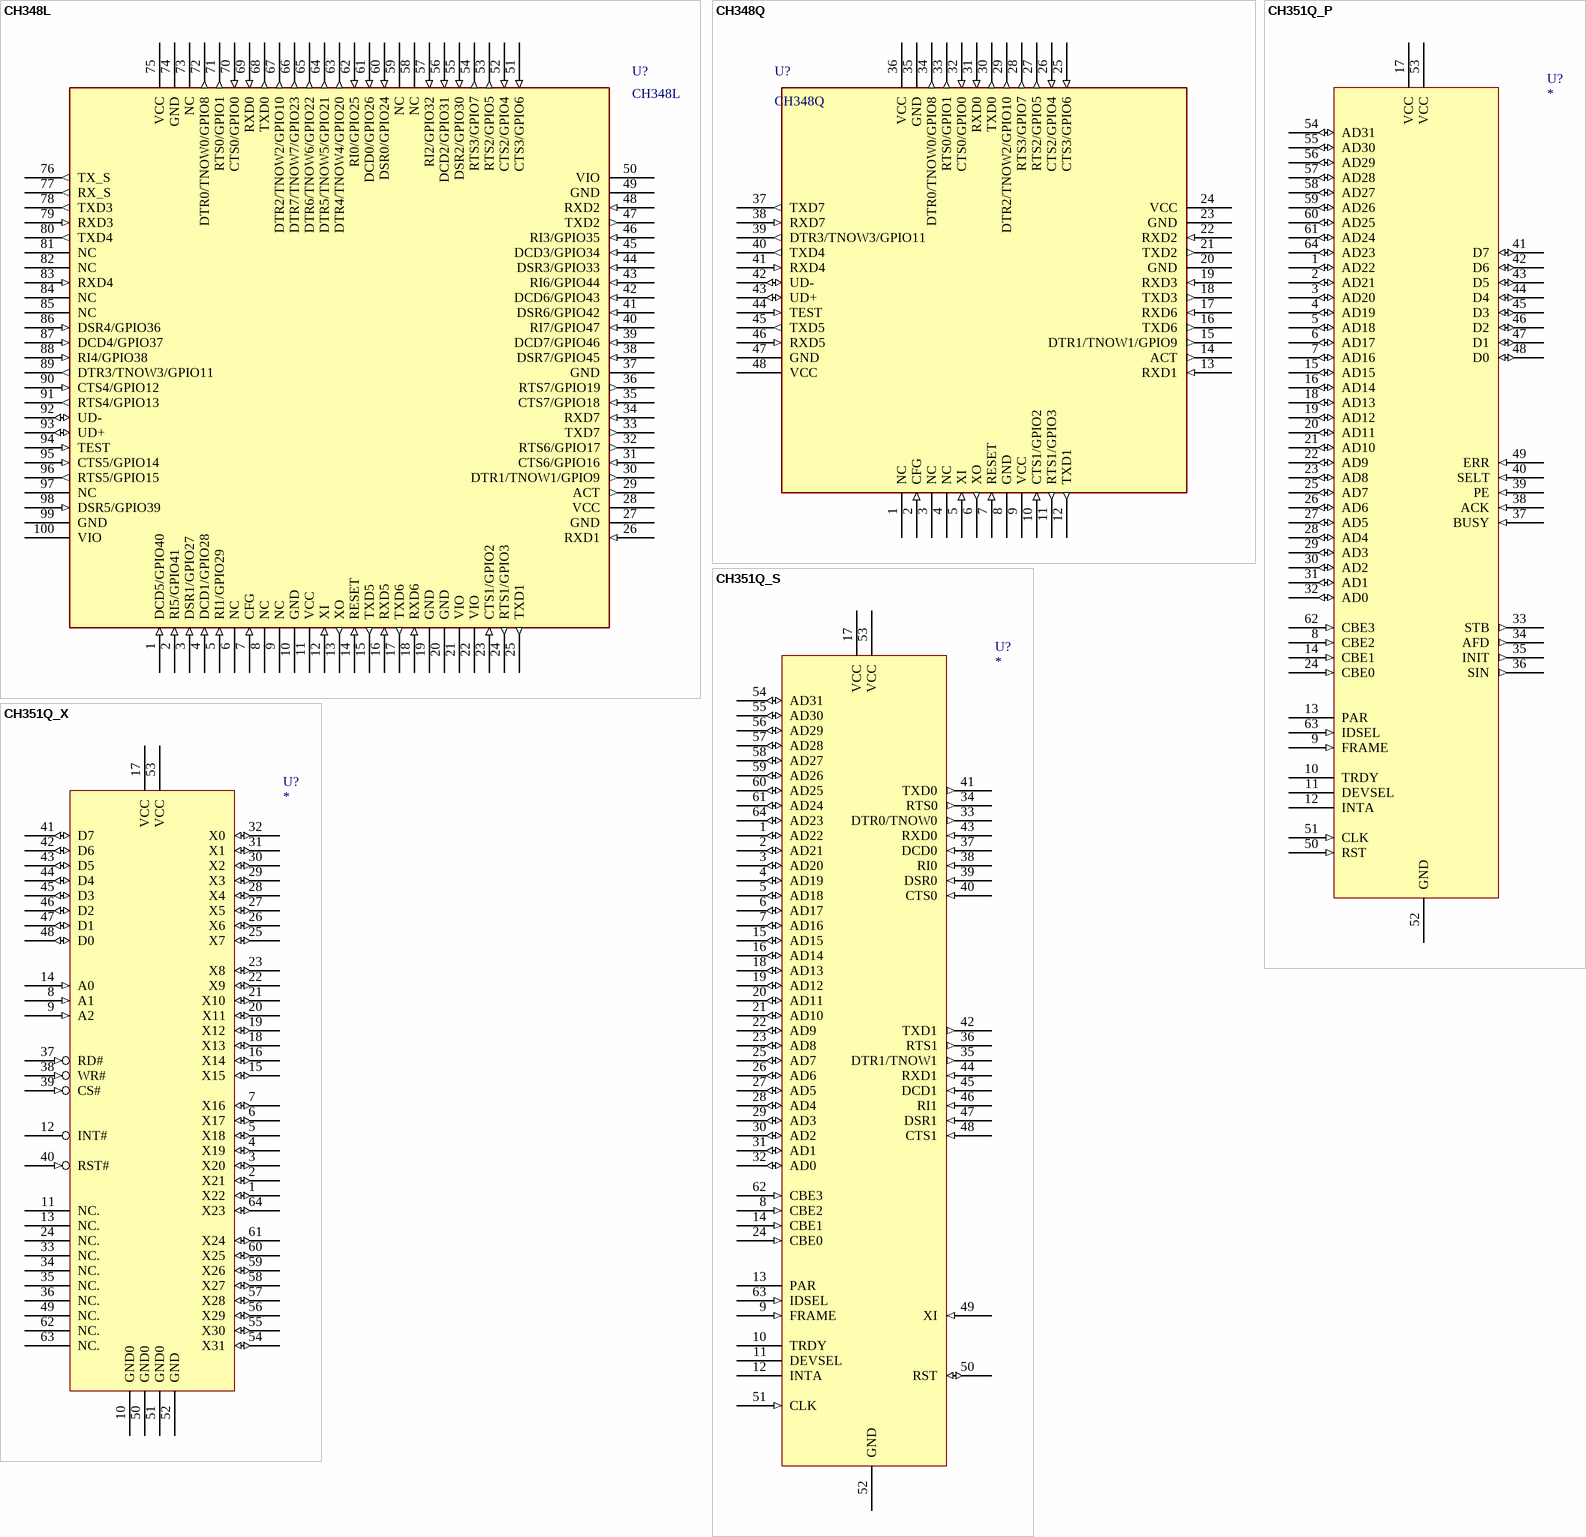
[diagram p23: symbols CH348L to CH351Q_X]

## CH348L
designator U?
High Speed USB to eight enhanced TTL Serial / 8 *UART
footprint LQFP100
pins: 1 DCD5/GPIO40 (in), 2 RI5/GPIO41 (in), 3 DSR1/GPIO27 (in), 4 DCD1/GPIO28 (in), 5 RI1/GPIO29 (in), 6 NC, 7 CFG (in), 8 NC, 9 NC, 10 GND (power), 11 VCC (power), 12 XI (in), 13 XO (out), 14 RESET (in), 15 TXD5 (out), 16 RXD5 (in), 17 TXD6 (out), 18 RXD6 (in), 19 GND (power), 20 GND (power), 21 VIO (power), 22 VIO (power), 23 CTS1/GPIO2 (in), 24 RTS1/GPIO3 (out), 25 TXD1 (out), 26 RXD1 (in), 27 GND (power), 28 VCC (power), 29 ACT (out), 30 DTR1/TNOW1/GPIO9 (out), 31 CTS6/GPIO16 (in), 32 RTS6/GPIO17 (out), 33 TXD7 (out), 34 RXD7 (in), 35 CTS7/GPIO18 (in), 36 RTS7/GPIO19 (out), 37 GND (power), 38 DSR7/GPIO45 (in), 39 DCD7/GPIO46 (in), 40 RI7/GPIO47 (in), 41 DSR6/GPIO42 (in), 42 DCD6/GPIO43 (in), 43 RI6/GPIO44 (in), 44 DSR3/GPIO33 (in), 45 DCD3/GPIO34 (in), 46 RI3/GPIO35 (in), 47 TXD2 (out), 48 RXD2 (in), 49 GND (power), 50 VIO (power), 51 CTS3/GPIO6 (in), 52 CTS2/GPIO4 (in), 53 RTS2/GPIO5 (out), 54 RTS3/GPIO7 (out), 55 DSR2/GPIO30 (in), 56 DCD2/GPIO31 (in), 57 RI2/GPIO32 (in), 58 NC, 59 NC, 60 DSR0/GPIO24 (in), 61 DCD0/GPIO26 (in), 62 RI0/GPIO25 (in), 63 DTR4/TNOW4/GPIO20 (out), 64 DTR5/TNOW5/GPIO21 (out), 65 DTR6/TNOW6/GPIO22 (out), 66 DTR7/TNOW7/GPIO23 (out), 67 DTR2/TNOW2/GPIO10 (out), 68 TXD0 (out), 69 RXD0 (in), 70 CTS0/GPIO0 (in), 71 RTS0/GPIO1 (out), 72 DTR0/TNOW0/GPIO8 (out), 73 NC, 74 GND (power), 75 VCC (power), 76 TX_S (out), 77 RX_S (out), 78 TXD3 (out), 79 RXD3 (in), 80 TXD4 (out), 81 NC, 82 NC, 83 RXD4 (in), 84 NC, 85 NC, 86 DSR4/GPIO36 (in), 87 DCD4/GPIO37 (in), 88 RI4/GPIO38 (in), 89 DTR3/TNOW3/GPIO11 (out), 90 CTS4/GPIO12 (in), 91 RTS4/GPIO13 (out), 92 UD- (io), 93 UD+ (io), 94 TEST (in), 95 CTS5/GPIO14 (in), 96 RTS5/GPIO15 (out), 97 NC, 98 DSR5/GPIO39 (in), 99 GND (power), 100 VIO (power)

## CH348Q
designator U?
High Speed USB to eight enhanced TTL Serial / 8 *UART
footprint LQFP48
pins: 1 NC, 2 CFG (in), 3 NC, 4 NC, 5 XI (in), 6 XO (out), 7 RESET (in), 8 GND (power), 9 VCC (power), 10 CTS1/GPIO2 (in), 11 RTS1/GPIO3 (out), 12 TXD1 (out), 13 RXD1 (in), 14 ACT (out), 15 DTR1/TNOW1/GPIO9 (out), 16 TXD6 (out), 17 RXD6 (in), 18 TXD3 (out), 19 RXD3 (in), 20 GND (power), 21 TXD2 (out), 22 RXD2 (in), 23 GND (power), 24 VCC (power), 25 CTS3/GPIO6 (in), 26 CTS2/GPIO4 (in), 27 RTS2/GPIO5 (out), 28 RTS3/GPIO7 (out), 29 DTR2/TNOW2/GPIO10 (out), 30 TXD0 (out), 31 RXD0 (in), 32 CTS0/GPIO0 (in), 33 RTS0/GPIO1 (out), 34 DTR0/TNOW0/GPIO8 (out), 35 GND (power), 36 VCC (power), 37 TXD7 (out), 38 RXD7 (in), 39 DTR3/TNOW3/GPIO11 (out), 40 TXD4 (out), 41 RXD4 (in), 42 UD- (io), 43 UD+ (io), 44 TEST (in), 45 TXD5 (out), 46 RXD5 (in), 47 GND (power), 48 VCC (power)

## CH351Q_P
designator U?
PCI to 1P: Print Port / Parallel
footprint LQFP64
pins: 1 AD22 (io), 2 AD21 (io), 3 AD20 (io), 4 AD19 (io), 5 AD18 (io), 6 AD17 (io), 7 AD16 (io), 8 CBE2 (in), 9 FRAME (in), 10 TRDY (hiz), 11 DEVSEL (hiz), 12 INTA (hiz), 13 PAR (hiz), 14 CBE1 (in), 15 AD15 (io), 16 AD14 (io), 17 VCC (power), 18 AD13 (io), 19 AD12 (io), 20 AD11 (io), 21 AD10 (io), 22 AD9 (io), 23 AD8 (io), 24 CBE0 (in), 25 AD7 (io), 26 AD6 (io), 27 AD5 (io), 28 AD4 (io), 29 AD3 (io), 30 AD2 (io), 31 AD1 (io), 32 AD0 (io), 33 STB (out), 34 AFD (out), 35 INIT (out), 36 SIN (out), 37 BUSY (in), 38 ACK (in), 39 PE (in), 40 SELT (in), 41 D7 (io), 42 D6 (io), 43 D5 (io), 44 D4 (io), 45 D3 (io), 46 D2 (io), 47 D1 (io), 48 D0 (io), 49 ERR (in), 50 RST (in), 51 CLK (in), 52 GND (power), 53 VCC (power), 54 AD31 (io), 55 AD30 (io), 56 AD29 (io), 57 AD28 (io), 58 AD27 (io), 59 AD26 (io), 60 AD25 (io), 61 AD24 (io), 62 CBE3 (in), 63 IDSEL (in), 64 AD23 (io)

## CH351Q_S
designator U?
PCI to 2S: Dual 16C550 UART, TTL Serial*2
footprint LQFP64
pins: 1 AD22 (io), 2 AD21 (io), 3 AD20 (io), 4 AD19 (io), 5 AD18 (io), 6 AD17 (io), 7 AD16 (io), 8 CBE2 (in), 9 FRAME (in), 10 TRDY (hiz), 11 DEVSEL (hiz), 12 INTA (hiz), 13 PAR (hiz), 14 CBE1 (in), 15 AD15 (io), 16 AD14 (io), 17 VCC (power), 18 AD13 (io), 19 AD12 (io), 20 AD11 (io), 21 AD10 (io), 22 AD9 (io), 23 AD8 (io), 24 CBE0 (in), 25 AD7 (io), 26 AD6 (io), 27 AD5 (io), 28 AD4 (io), 29 AD3 (io), 30 AD2 (io), 31 AD1 (io), 32 AD0 (io), 33 DTR0/TNOW0 (out), 34 RTS0 (out), 35 DTR1/TNOW1 (out), 36 RTS1 (out), 37 DCD0 (in), 38 RI0 (in), 39 DSR0 (in), 40 CTS0 (in), 41 TXD0 (out), 42 TXD1 (out), 43 RXD0 (in), 44 RXD1 (in), 45 DCD1 (in), 46 RI1 (in), 47 DSR1 (in), 48 CTS1 (in), 49 XI (in), 50 RST (io), 51 CLK (in), 52 GND (power), 53 VCC (power), 54 AD31 (io), 55 AD30 (io), 56 AD29 (io), 57 AD28 (io), 58 AD27 (io), 59 AD26 (io), 60 AD25 (io), 61 AD24 (io), 62 CBE3 (in), 63 IDSEL (in), 64 AD23 (io)

## CH351Q_X
designator U?
Parallel I/O expander, 32 GPIO
footprint LQFP64
pins: 1 X22 (io), 2 X21 (io), 3 X20 (io), 4 X19 (io), 5 X18 (io), 6 X17 (io), 7 X16 (io), 8 A1 (in), 9 A2 (in), 10 GND0 (power), 11 NC., 12 INT# (oc), 13 NC., 14 A0 (in), 15 X15 (io), 16 X14 (io), 17 VCC (power), 18 X13 (io), 19 X12 (io), 20 X11 (io), 21 X10 (io), 22 X9 (io), 23 X8 (io), 24 NC., 25 X7 (io), 26 X6 (io), 27 X5 (io), 28 X4 (io), 29 X3 (io), 30 X2 (io), 31 X1 (io), 32 X0 (io), 33 NC., 34 NC., 35 NC., 36 NC., 37 RD# (in), 38 WR# (in), 39 CS# (in), 40 RST# (in), 41 D7 (io), 42 D6 (io), 43 D5 (io), 44 D4 (io), 45 D3 (io), 46 D2 (io), 47 D1 (io), 48 D0 (io), 49 NC., 50 GND0 (power), 51 GND0 (power), 52 GND (power), 53 VCC (power), 54 X31 (io), 55 X30 (io), 56 X29 (io), 57 X28 (io), 58 X27 (io), 59 X26 (io), 60 X25 (io), 61 X24 (io), 62 NC., 63 NC., 64 X23 (io)

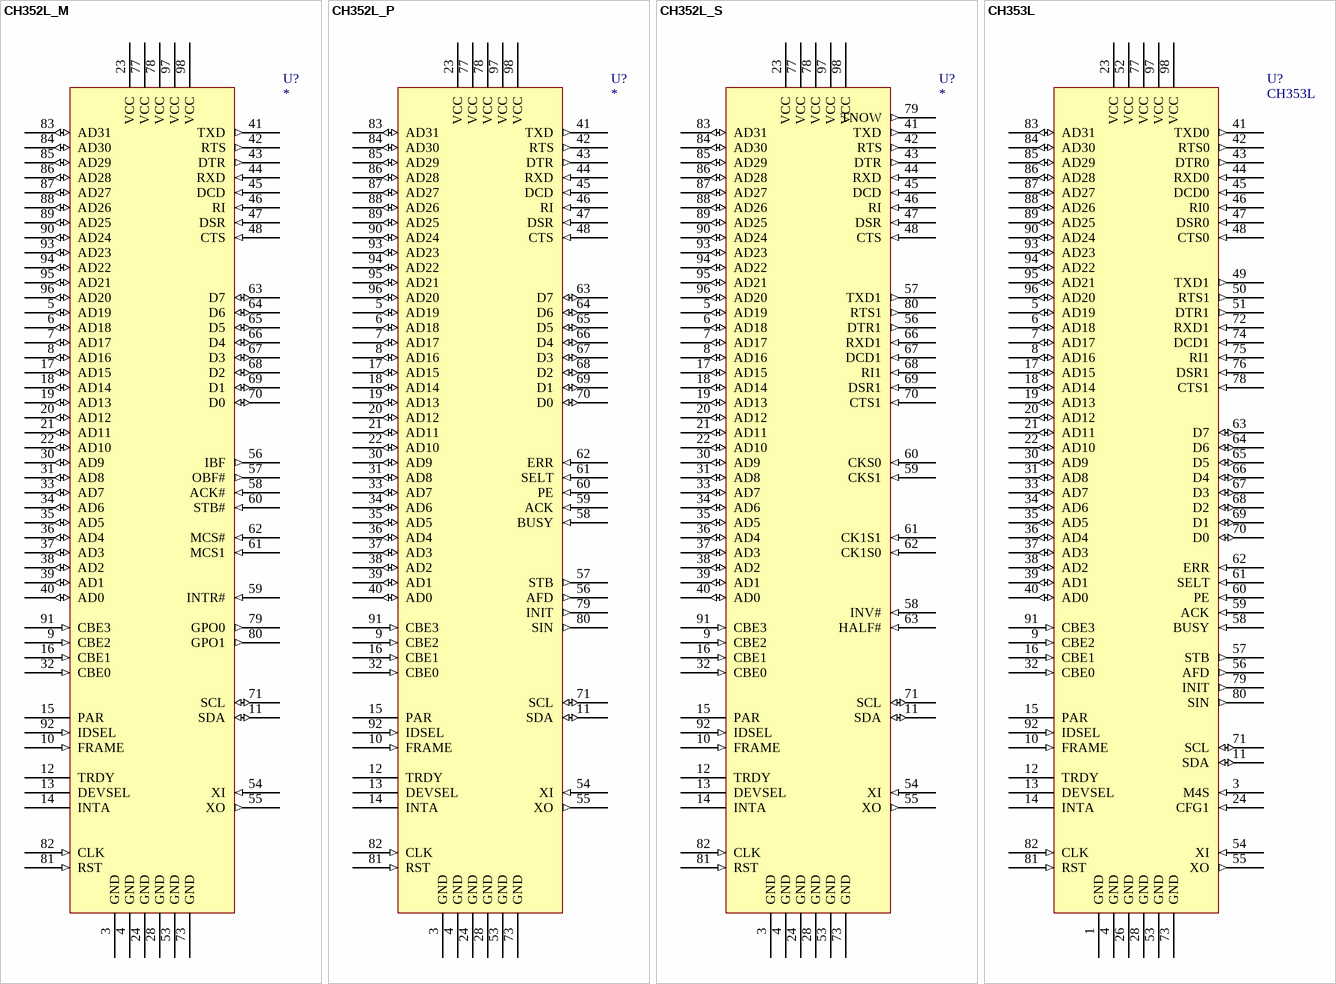
[diagram p24: symbols CH352L_M to CH353L]

## CH352L_M
designator U?
PCI to 8255 mode 2 Parallel for MCU and 16C550 UART / IrDA
footprint LQFP100
pins: 3 GND (power), 4 GND (power), 5 AD19 (io), 6 AD18 (io), 7 AD17 (io), 8 AD16 (io), 9 CBE2 (in), 10 FRAME (in), 11 SDA (io), 12 TRDY (hiz), 13 DEVSEL (hiz), 14 INTA (hiz), 15 PAR (hiz), 16 CBE1 (in), 17 AD15 (io), 18 AD14 (io), 19 AD13 (io), 20 AD12 (io), 21 AD11 (io), 22 AD10 (io), 23 VCC (power), 24 GND (power), 28 GND (power), 30 AD9 (io), 31 AD8 (io), 32 CBE0 (in), 33 AD7 (io), 34 AD6 (io), 35 AD5 (io), 36 AD4 (io), 37 AD3 (io), 38 AD2 (io), 39 AD1 (io), 40 AD0 (io), 41 TXD (out), 42 RTS (out), 43 DTR (out), 44 RXD (in), 45 DCD (in), 46 RI (in), 47 DSR (in), 48 CTS (in), 53 GND (power), 54 XI (in), 55 XO (out), 56 IBF (out), 57 OBF# (out), 58 ACK# (in), 59 INTR# (in), 60 STB# (in), 61 MCS1 (in), 62 MCS# (in), 63 D7 (io), 64 D6 (io), 65 D5 (io), 66 D4 (io), 67 D3 (io), 68 D2 (io), 69 D1 (io), 70 D0 (io), 71 SCL (io), 73 GND (power), 77 VCC (power), 78 VCC (power), 79 GPO0 (out), 80 GPO1 (out), 81 RST (in), 82 CLK (in), 83 AD31 (io), 84 AD30 (io), 85 AD29 (io), 86 AD28 (io), 87 AD27 (io), 88 AD26 (io), 89 AD25 (io), 90 AD24 (io), 91 CBE3 (in), 92 IDSEL (in), 93 AD23 (io), 94 AD22 (io), 95 AD21 (io), 96 AD20 (io), 97 VCC (power), 98 VCC (power)

## CH352L_P
designator U?
PCI to 1S1P: Print Port / Parallel and 16C550 UART / IrDA
footprint LQFP100
pins: 3 GND (power), 4 GND (power), 5 AD19 (io), 6 AD18 (io), 7 AD17 (io), 8 AD16 (io), 9 CBE2 (in), 10 FRAME (in), 11 SDA (io), 12 TRDY (hiz), 13 DEVSEL (hiz), 14 INTA (hiz), 15 PAR (hiz), 16 CBE1 (in), 17 AD15 (io), 18 AD14 (io), 19 AD13 (io), 20 AD12 (io), 21 AD11 (io), 22 AD10 (io), 23 VCC (power), 24 GND (power), 28 GND (power), 30 AD9 (io), 31 AD8 (io), 32 CBE0 (in), 33 AD7 (io), 34 AD6 (io), 35 AD5 (io), 36 AD4 (io), 37 AD3 (io), 38 AD2 (io), 39 AD1 (io), 40 AD0 (io), 41 TXD (out), 42 RTS (out), 43 DTR (out), 44 RXD (in), 45 DCD (in), 46 RI (in), 47 DSR (in), 48 CTS (in), 53 GND (power), 54 XI (in), 55 XO (out), 56 AFD (out), 57 STB (out), 58 BUSY (in), 59 ACK (in), 60 PE (in), 61 SELT (in), 62 ERR (in), 63 D7 (io), 64 D6 (io), 65 D5 (io), 66 D4 (io), 67 D3 (io), 68 D2 (io), 69 D1 (io), 70 D0 (io), 71 SCL (io), 73 GND (power), 77 VCC (power), 78 VCC (power), 79 INIT (out), 80 SIN (out), 81 RST (in), 82 CLK (in), 83 AD31 (io), 84 AD30 (io), 85 AD29 (io), 86 AD28 (io), 87 AD27 (io), 88 AD26 (io), 89 AD25 (io), 90 AD24 (io), 91 CBE3 (in), 92 IDSEL (in), 93 AD23 (io), 94 AD22 (io), 95 AD21 (io), 96 AD20 (io), 97 VCC (power), 98 VCC (power)

## CH352L_S
designator U?
PCI to 2S: Dual 16C550 UART, TTL Serial*2 / IrDA*1
footprint LQFP100
pins: 3 GND (power), 4 GND (power), 5 AD19 (io), 6 AD18 (io), 7 AD17 (io), 8 AD16 (io), 9 CBE2 (in), 10 FRAME (in), 11 SDA (io), 12 TRDY (hiz), 13 DEVSEL (hiz), 14 INTA (hiz), 15 PAR (hiz), 16 CBE1 (in), 17 AD15 (io), 18 AD14 (io), 19 AD13 (io), 20 AD12 (io), 21 AD11 (io), 22 AD10 (io), 23 VCC (power), 24 GND (power), 28 GND (power), 30 AD9 (io), 31 AD8 (io), 32 CBE0 (in), 33 AD7 (io), 34 AD6 (io), 35 AD5 (io), 36 AD4 (io), 37 AD3 (io), 38 AD2 (io), 39 AD1 (io), 40 AD0 (io), 41 TXD (out), 42 RTS (out), 43 DTR (out), 44 RXD (in), 45 DCD (in), 46 RI (in), 47 DSR (in), 48 CTS (in), 53 GND (power), 54 XI (in), 55 XO (out), 56 DTR1 (out), 57 TXD1 (out), 58 INV# (in), 59 CKS1 (in), 60 CKS0 (in), 61 CK1S1 (in), 62 CK1S0 (in), 63 HALF# (in), 66 RXD1 (in), 67 DCD1 (in), 68 RI1 (in), 69 DSR1 (in), 70 CTS1 (in), 71 SCL (io), 73 GND (power), 77 VCC (power), 78 VCC (power), 79 TNOW (out), 80 RTS1 (out), 81 RST (in), 82 CLK (in), 83 AD31 (io), 84 AD30 (io), 85 AD29 (io), 86 AD28 (io), 87 AD27 (io), 88 AD26 (io), 89 AD25 (io), 90 AD24 (io), 91 CBE3 (in), 92 IDSEL (in), 93 AD23 (io), 94 AD22 (io), 95 AD21 (io), 96 AD20 (io), 97 VCC (power), 98 VCC (power)

## CH353L
designator U?
PCI to 2S1P: Print Port / Parallel and Dual 16C550 UART / IrDA*1
footprint LQFP100
pins: 1 GND (power), 3 M4S (in), 4 GND (power), 5 AD19 (io), 6 AD18 (io), 7 AD17 (io), 8 AD16 (io), 9 CBE2 (in), 10 FRAME (in), 11 SDA (io), 12 TRDY (hiz), 13 DEVSEL (hiz), 14 INTA (hiz), 15 PAR (hiz), 16 CBE1 (in), 17 AD15 (io), 18 AD14 (io), 19 AD13 (io), 20 AD12 (io), 21 AD11 (io), 22 AD10 (io), 23 VCC (power), 24 CFG1 (in), 26 GND (power), 28 GND (power), 30 AD9 (io), 31 AD8 (io), 32 CBE0 (in), 33 AD7 (io), 34 AD6 (io), 35 AD5 (io), 36 AD4 (io), 37 AD3 (io), 38 AD2 (io), 39 AD1 (io), 40 AD0 (io), 41 TXD0 (out), 42 RTS0 (out), 43 DTR0 (out), 44 RXD0 (in), 45 DCD0 (in), 46 RI0 (in), 47 DSR0 (in), 48 CTS0 (in), 49 TXD1 (out), 50 RTS1 (out), 51 DTR1 (out), 52 VCC (power), 53 GND (power), 54 XI (in), 55 XO (out), 56 AFD (out), 57 STB (out), 58 BUSY (in), 59 ACK (in), 60 PE (in), 61 SELT (in), 62 ERR (in), 63 D7 (io), 64 D6 (io), 65 D5 (io), 66 D4 (io), 67 D3 (io), 68 D2 (io), 69 D1 (io), 70 D0 (io), 71 SCL (io), 72 RXD1 (in), 73 GND (power), 74 DCD1 (in), 75 RI1 (in), 76 DSR1 (in), 77 VCC (power), 78 CTS1 (in), 79 INIT (out), 80 SIN (out), 81 RST (in), 82 CLK (in), 83 AD31 (io), 84 AD30 (io), 85 AD29 (io), 86 AD28 (io), 87 AD27 (io), 88 AD26 (io), 89 AD25 (io), 90 AD24 (io), 91 CBE3 (in), 92 IDSEL (in), 93 AD23 (io), 94 AD22 (io), 95 AD21 (io), 96 AD20 (io), 97 VCC (power), 98 VCC (power)

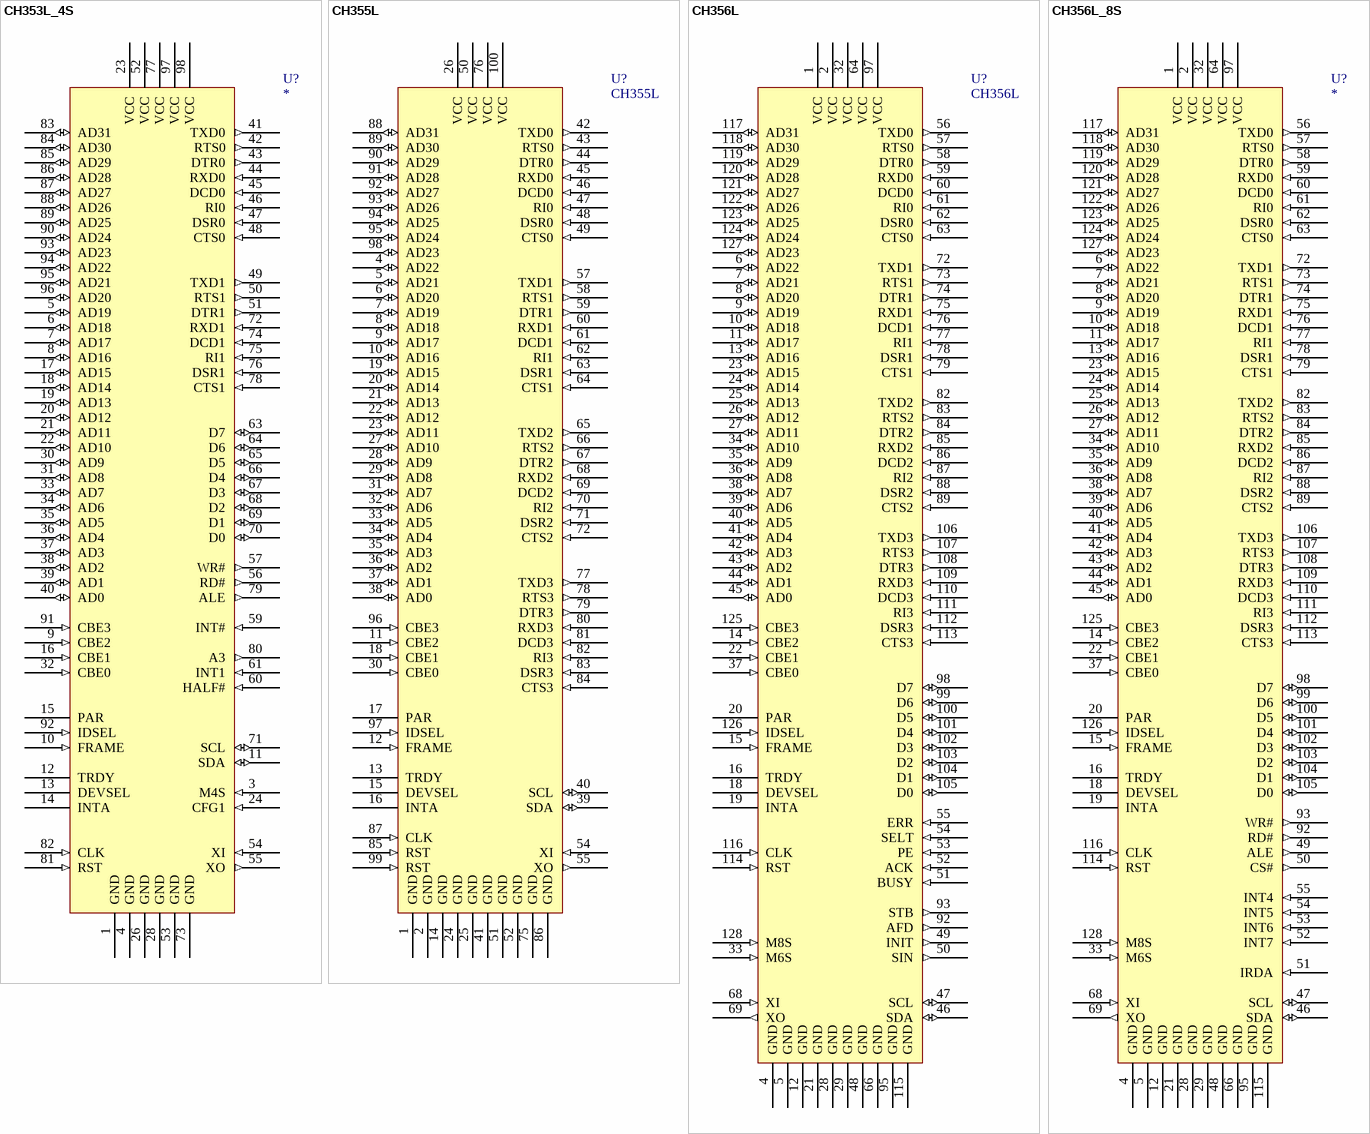
[diagram p25: symbols CH353L_4S to CH356L_8S]

## CH353L_4S
designator U?
PCI to 4S: Dual 16C550 UART + external dual, TTL Serial*4
footprint LQFP100
pins: 1 GND (power), 3 M4S (in), 4 GND (power), 5 AD19 (io), 6 AD18 (io), 7 AD17 (io), 8 AD16 (io), 9 CBE2 (in), 10 FRAME (in), 11 SDA (io), 12 TRDY (hiz), 13 DEVSEL (hiz), 14 INTA (hiz), 15 PAR (hiz), 16 CBE1 (in), 17 AD15 (io), 18 AD14 (io), 19 AD13 (io), 20 AD12 (io), 21 AD11 (io), 22 AD10 (io), 23 VCC (power), 24 CFG1 (in), 26 GND (power), 28 GND (power), 30 AD9 (io), 31 AD8 (io), 32 CBE0 (in), 33 AD7 (io), 34 AD6 (io), 35 AD5 (io), 36 AD4 (io), 37 AD3 (io), 38 AD2 (io), 39 AD1 (io), 40 AD0 (io), 41 TXD0 (out), 42 RTS0 (out), 43 DTR0 (out), 44 RXD0 (in), 45 DCD0 (in), 46 RI0 (in), 47 DSR0 (in), 48 CTS0 (in), 49 TXD1 (out), 50 RTS1 (out), 51 DTR1 (out), 52 VCC (power), 53 GND (power), 54 XI (in), 55 XO (out), 56 RD# (out), 57 WR# (out), 59 INT# (in), 60 HALF# (in), 61 INT1 (in), 63 D7 (io), 64 D6 (io), 65 D5 (io), 66 D4 (io), 67 D3 (io), 68 D2 (io), 69 D1 (io), 70 D0 (io), 71 SCL (io), 72 RXD1 (in), 73 GND (power), 74 DCD1 (in), 75 RI1 (in), 76 DSR1 (in), 77 VCC (power), 78 CTS1 (in), 79 ALE (out), 80 A3 (out), 81 RST (in), 82 CLK (in), 83 AD31 (io), 84 AD30 (io), 85 AD29 (io), 86 AD28 (io), 87 AD27 (io), 88 AD26 (io), 89 AD25 (io), 90 AD24 (io), 91 CBE3 (in), 92 IDSEL (in), 93 AD23 (io), 94 AD22 (io), 95 AD21 (io), 96 AD20 (io), 97 VCC (power), 98 VCC (power)

## CH355L
designator U?
PCI to 4S: Quad 16C550 UART, TTL Serial*4 / IrDA*1
footprint LQFP100
pins: 1 GND (power), 2 GND (power), 4 AD22 (io), 5 AD21 (io), 6 AD20 (io), 7 AD19 (io), 8 AD18 (io), 9 AD17 (io), 10 AD16 (io), 11 CBE2 (in), 12 FRAME (in), 13 TRDY (hiz), 14 GND (power), 15 DEVSEL (hiz), 16 INTA (hiz), 17 PAR (hiz), 18 CBE1 (in), 19 AD15 (io), 20 AD14 (io), 21 AD13 (io), 22 AD12 (io), 23 AD11 (io), 24 GND (power), 25 GND (power), 26 VCC (power), 27 AD10 (io), 28 AD9 (io), 29 AD8 (io), 30 CBE0 (in), 31 AD7 (io), 32 AD6 (io), 33 AD5 (io), 34 AD4 (io), 35 AD3 (io), 36 AD2 (io), 37 AD1 (io), 38 AD0 (io), 39 SDA (io), 40 SCL (io), 41 GND (power), 42 TXD0 (out), 43 RTS0 (out), 44 DTR0 (out), 45 RXD0 (in), 46 DCD0 (in), 47 RI0 (in), 48 DSR0 (in), 49 CTS0 (in), 50 VCC (power), 51 GND (power), 52 GND (power), 54 XI (in), 55 XO (out), 57 TXD1 (out), 58 RTS1 (out), 59 DTR1 (out), 60 RXD1 (in), 61 DCD1 (in), 62 RI1 (in), 63 DSR1 (in), 64 CTS1 (in), 65 TXD2 (out), 66 RTS2 (out), 67 DTR2 (out), 68 RXD2 (in), 69 DCD2 (in), 70 RI2 (in), 71 DSR2 (in), 72 CTS2 (in), 75 GND (power), 76 VCC (power), 77 TXD3 (out), 78 RTS3 (out), 79 DTR3 (out), 80 RXD3 (in), 81 DCD3 (in), 82 RI3 (in), 83 DSR3 (in), 84 CTS3 (in), 85 RST (in), 86 GND (power), 87 CLK (in), 88 AD31 (io), 89 AD30 (io), 90 AD29 (io), 91 AD28 (io), 92 AD27 (io), 93 AD26 (io), 94 AD25 (io), 95 AD24 (io), 96 CBE3 (in), 97 IDSEL (in), 98 AD23 (io), 99 RST (in), 100 VCC (power)

## CH356L
designator U?
PCI to 4S1P: Print Port / Parallel and Quad 16C550 UART / IrDA*1
footprint LQFP128
pins: 1 VCC (power), 2 VCC (power), 4 GND (power), 5 GND (power), 6 AD22 (io), 7 AD21 (io), 8 AD20 (io), 9 AD19 (io), 10 AD18 (io), 11 AD17 (io), 12 GND (power), 13 AD16 (io), 14 CBE2 (in), 15 FRAME (in), 16 TRDY (hiz), 18 DEVSEL (hiz), 19 INTA (hiz), 20 PAR (hiz), 21 GND (power), 22 CBE1 (in), 23 AD15 (io), 24 AD14 (io), 25 AD13 (io), 26 AD12 (io), 27 AD11 (io), 28 GND (power), 29 GND (power), 32 VCC (power), 33 M6S (in), 34 AD10 (io), 35 AD9 (io), 36 AD8 (io), 37 CBE0 (in), 38 AD7 (io), 39 AD6 (io), 40 AD5 (io), 41 AD4 (io), 42 AD3 (io), 43 AD2 (io), 44 AD1 (io), 45 AD0 (io), 46 SDA (io), 47 SCL (io), 48 GND (power), 49 INIT (out), 50 SIN (out), 51 BUSY (in), 52 ACK (in), 53 PE (in), 54 SELT (in), 55 ERR (in), 56 TXD0 (out), 57 RTS0 (out), 58 DTR0 (out), 59 RXD0 (in), 60 DCD0 (in), 61 RI0 (in), 62 DSR0 (in), 63 CTS0 (in), 64 VCC (power), 66 GND (power), 68 XI (in), 69 XO (out), 72 TXD1 (out), 73 RTS1 (out), 74 DTR1 (out), 75 RXD1 (in), 76 DCD1 (in), 77 RI1 (in), 78 DSR1 (in), 79 CTS1 (in), 82 TXD2 (out), 83 RTS2 (out), 84 DTR2 (out), 85 RXD2 (in), 86 DCD2 (in), 87 RI2 (in), 88 DSR2 (in), 89 CTS2 (in), 92 AFD (out), 93 STB (out), 95 GND (power), 97 VCC (power), 98 D7 (io), 99 D6 (io), 100 D5 (io), 101 D4 (io), 102 D3 (io), 103 D2 (io), 104 D1 (io), 105 D0 (io), 106 TXD3 (out), 107 RTS3 (out), 108 DTR3 (out), 109 RXD3 (in), 110 DCD3 (in), 111 RI3 (in), 112 DSR3 (in), 113 CTS3 (in), 114 RST (in), 115 GND (power), 116 CLK (in), 117 AD31 (io), 118 AD30 (io), 119 AD29 (io), 120 AD28 (io), 121 AD27 (io), 122 AD26 (io), 123 AD25 (io), 124 AD24 (io), 125 CBE3 (in), 126 IDSEL (in), 127 AD23 (io), 128 M8S (in)

## CH356L_8S
designator U?
PCI to 8S: Quad 16C550 UART + external Quad, TTL Serial*8
footprint LQFP128
pins: 1 VCC (power), 2 VCC (power), 4 GND (power), 5 GND (power), 6 AD22 (io), 7 AD21 (io), 8 AD20 (io), 9 AD19 (io), 10 AD18 (io), 11 AD17 (io), 12 GND (power), 13 AD16 (io), 14 CBE2 (in), 15 FRAME (in), 16 TRDY (hiz), 18 DEVSEL (hiz), 19 INTA (hiz), 20 PAR (hiz), 21 GND (power), 22 CBE1 (in), 23 AD15 (io), 24 AD14 (io), 25 AD13 (io), 26 AD12 (io), 27 AD11 (io), 28 GND (power), 29 GND (power), 32 VCC (power), 33 M6S (in), 34 AD10 (io), 35 AD9 (io), 36 AD8 (io), 37 CBE0 (in), 38 AD7 (io), 39 AD6 (io), 40 AD5 (io), 41 AD4 (io), 42 AD3 (io), 43 AD2 (io), 44 AD1 (io), 45 AD0 (io), 46 SDA (io), 47 SCL (io), 48 GND (power), 49 ALE (out), 50 CS# (out), 51 IRDA (in), 52 INT7 (in), 53 INT6 (in), 54 INT5 (in), 55 INT4 (in), 56 TXD0 (out), 57 RTS0 (out), 58 DTR0 (out), 59 RXD0 (in), 60 DCD0 (in), 61 RI0 (in), 62 DSR0 (in), 63 CTS0 (in), 64 VCC (power), 66 GND (power), 68 XI (in), 69 XO (out), 72 TXD1 (out), 73 RTS1 (out), 74 DTR1 (out), 75 RXD1 (in), 76 DCD1 (in), 77 RI1 (in), 78 DSR1 (in), 79 CTS1 (in), 82 TXD2 (out), 83 RTS2 (out), 84 DTR2 (out), 85 RXD2 (in), 86 DCD2 (in), 87 RI2 (in), 88 DSR2 (in), 89 CTS2 (in), 92 RD# (out), 93 WR# (out), 95 GND (power), 97 VCC (power), 98 D7 (io), 99 D6 (io), 100 D5 (io), 101 D4 (io), 102 D3 (io), 103 D2 (io), 104 D1 (io), 105 D0 (io), 106 TXD3 (out), 107 RTS3 (out), 108 DTR3 (out), 109 RXD3 (in), 110 DCD3 (in), 111 RI3 (in), 112 DSR3 (in), 113 CTS3 (in), 114 RST (in), 115 GND (power), 116 CLK (in), 117 AD31 (io), 118 AD30 (io), 119 AD29 (io), 120 AD28 (io), 121 AD27 (io), 122 AD26 (io), 123 AD25 (io), 124 AD24 (io), 125 CBE3 (in), 126 IDSEL (in), 127 AD23 (io), 128 M8S (in)

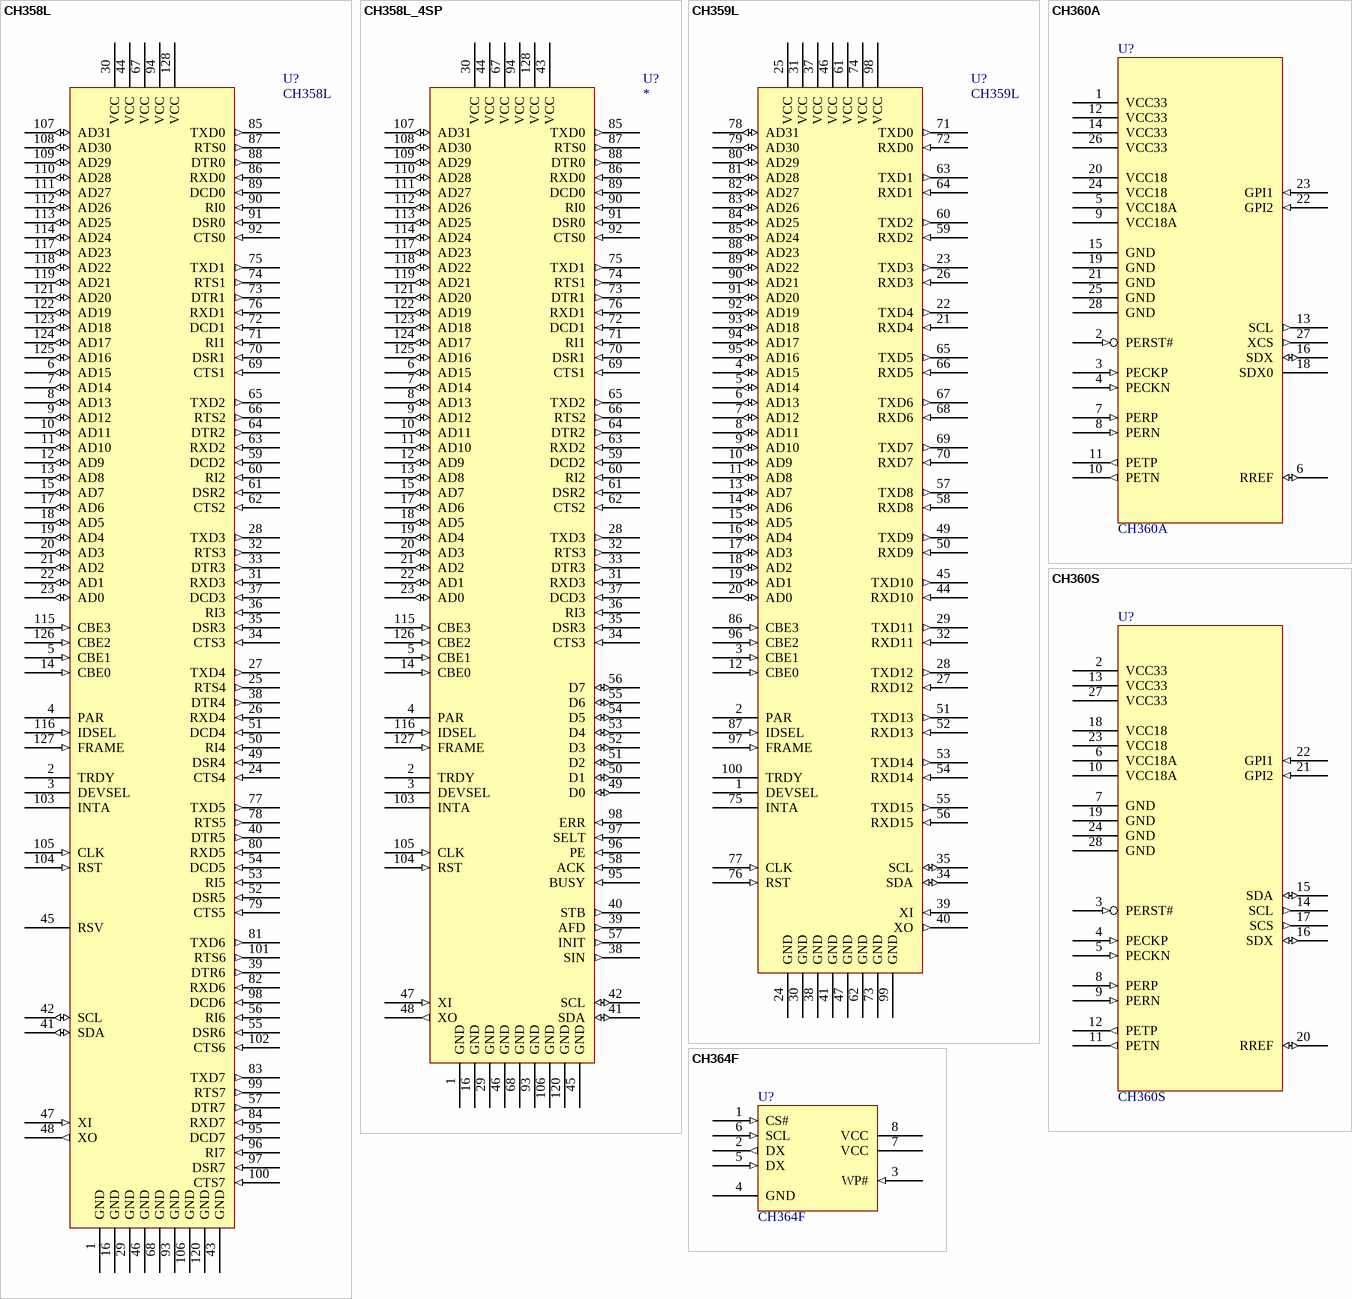
[diagram p26: symbols CH358L to CH364F]

## CH358L
designator U?
PCI to 8S: Oct 16C550 UART with 128 byte FIFO, TTL Serial*8 / IrDA*1
footprint LQFP128
pins: 1 GND (power), 2 TRDY (hiz), 3 DEVSEL (hiz), 4 PAR (hiz), 5 CBE1 (in), 6 AD15 (io), 7 AD14 (io), 8 AD13 (io), 9 AD12 (io), 10 AD11 (io), 11 AD10 (io), 12 AD9 (io), 13 AD8 (io), 14 CBE0 (in), 15 AD7 (io), 16 GND (power), 17 AD6 (io), 18 AD5 (io), 19 AD4 (io), 20 AD3 (io), 21 AD2 (io), 22 AD1 (io), 23 AD0 (io), 24 CTS4 (in), 25 RTS4 (out), 26 RXD4 (in), 27 TXD4 (out), 28 TXD3 (out), 29 GND (power), 30 VCC (power), 31 RXD3 (in), 32 RTS3 (out), 33 DTR3 (out), 34 CTS3 (in), 35 DSR3 (in), 36 RI3 (in), 37 DCD3 (in), 38 DTR4 (out), 39 DTR6 (out), 40 DTR5 (out), 41 SDA (io), 42 SCL (io), 43 GND (power), 44 VCC (power), 45 RSV, 46 GND (power), 47 XI (in), 48 XO (out), 49 DSR4 (in), 50 RI4 (in), 51 DCD4 (in), 52 DSR5 (in), 53 RI5 (in), 54 DCD5 (in), 55 DSR6 (in), 56 RI6 (in), 57 DTR7 (out), 59 DCD2 (in), 60 RI2 (in), 61 DSR2 (in), 62 CTS2 (in), 63 RXD2 (in), 64 DTR2 (out), 65 TXD2 (out), 66 RTS2 (out), 67 VCC (power), 68 GND (power), 69 CTS1 (in), 70 DSR1 (in), 71 RI1 (in), 72 DCD1 (in), 73 DTR1 (out), 74 RTS1 (out), 75 TXD1 (out), 76 RXD1 (in), 77 TXD5 (out), 78 RTS5 (out), 79 CTS5 (in), 80 RXD5 (in), 81 TXD6 (out), 82 RXD6 (in), 83 TXD7 (out), 84 RXD7 (in), 85 TXD0 (out), 86 RXD0 (in), 87 RTS0 (out), 88 DTR0 (out), 89 DCD0 (in), 90 RI0 (in), 91 DSR0 (in), 92 CTS0 (in), 93 GND (power), 94 VCC (power), 95 DCD7 (in), 96 RI7 (in), 97 DSR7 (in), 98 DCD6 (in), 99 RTS7 (out), 100 CTS7 (in), 101 RTS6 (out), 102 CTS6 (in), 103 INTA (hiz), 104 RST (in), 105 CLK (in), 106 GND (power), 107 AD31 (io), 108 AD30 (io), 109 AD29 (io), 110 AD28 (io), 111 AD27 (io), 112 AD26 (io), 113 AD25 (io), 114 AD24 (io), 115 CBE3 (in), 116 IDSEL (in), 117 AD23 (io), 118 AD22 (io), 119 AD21 (io), 120 GND (power), 121 AD20 (io), 122 AD19 (io), 123 AD18 (io), 124 AD17 (io), 125 AD16 (io), 126 CBE2 (in), 127 FRAME (in), 128 VCC (power)

## CH358L_4SP
designator U?
PCI to 4S1P: Print Port / Parallel and Quad 16C550 UART with 128 byte FIFO
footprint LQFP128
pins: 1 GND (power), 2 TRDY (hiz), 3 DEVSEL (hiz), 4 PAR (hiz), 5 CBE1 (in), 6 AD15 (io), 7 AD14 (io), 8 AD13 (io), 9 AD12 (io), 10 AD11 (io), 11 AD10 (io), 12 AD9 (io), 13 AD8 (io), 14 CBE0 (in), 15 AD7 (io), 16 GND (power), 17 AD6 (io), 18 AD5 (io), 19 AD4 (io), 20 AD3 (io), 21 AD2 (io), 22 AD1 (io), 23 AD0 (io), 28 TXD3 (out), 29 GND (power), 30 VCC (power), 31 RXD3 (in), 32 RTS3 (out), 33 DTR3 (out), 34 CTS3 (in), 35 DSR3 (in), 36 RI3 (in), 37 DCD3 (in), 38 SIN (out), 39 AFD (out), 40 STB (out), 41 SDA (io), 42 SCL (io), 43 VCC (power), 44 VCC (power), 45 GND (power), 46 GND (power), 47 XI (in), 48 XO (out), 49 D0 (io), 50 D1 (io), 51 D2 (io), 52 D3 (io), 53 D4 (io), 54 D5 (io), 55 D6 (io), 56 D7 (io), 57 INIT (out), 58 ACK (in), 59 DCD2 (in), 60 RI2 (in), 61 DSR2 (in), 62 CTS2 (in), 63 RXD2 (in), 64 DTR2 (out), 65 TXD2 (out), 66 RTS2 (out), 67 VCC (power), 68 GND (power), 69 CTS1 (in), 70 DSR1 (in), 71 RI1 (in), 72 DCD1 (in), 73 DTR1 (out), 74 RTS1 (out), 75 TXD1 (out), 76 RXD1 (in), 85 TXD0 (out), 86 RXD0 (in), 87 RTS0 (out), 88 DTR0 (out), 89 DCD0 (in), 90 RI0 (in), 91 DSR0 (in), 92 CTS0 (in), 93 GND (power), 94 VCC (power), 95 BUSY (in), 96 PE (in), 97 SELT (in), 98 ERR (in), 103 INTA (hiz), 104 RST (in), 105 CLK (in), 106 GND (power), 107 AD31 (io), 108 AD30 (io), 109 AD29 (io), 110 AD28 (io), 111 AD27 (io), 112 AD26 (io), 113 AD25 (io), 114 AD24 (io), 115 CBE3 (in), 116 IDSEL (in), 117 AD23 (io), 118 AD22 (io), 119 AD21 (io), 120 GND (power), 121 AD20 (io), 122 AD19 (io), 123 AD18 (io), 124 AD17 (io), 125 AD16 (io), 126 CBE2 (in), 127 FRAME (in), 128 VCC (power)

## CH359L
designator U?
PCI to 16S: TTL 3 wire Serial*16, 128 byte FIFO, no modem
footprint LQFP100
pins: 1 DEVSEL (hiz), 2 PAR (hiz), 3 CBE1 (in), 4 AD15 (io), 5 AD14 (io), 6 AD13 (io), 7 AD12 (io), 8 AD11 (io), 9 AD10 (io), 10 AD9 (io), 11 AD8 (io), 12 CBE0 (in), 13 AD7 (io), 14 AD6 (io), 15 AD5 (io), 16 AD4 (io), 17 AD3 (io), 18 AD2 (io), 19 AD1 (io), 20 AD0 (io), 21 RXD4 (in), 22 TXD4 (out), 23 TXD3 (out), 24 GND (power), 25 VCC (power), 26 RXD3 (in), 27 RXD12 (in), 28 TXD12 (out), 29 TXD11 (out), 30 GND (power), 31 VCC (power), 32 RXD11 (in), 34 SDA (io), 35 SCL (io), 37 VCC (power), 38 GND (power), 39 XI (in), 40 XO (out), 41 GND (power), 44 RXD10 (in), 45 TXD10 (out), 46 VCC (power), 47 GND (power), 49 TXD9 (out), 50 RXD9 (in), 51 TXD13 (out), 52 RXD13 (in), 53 TXD14 (out), 54 RXD14 (in), 55 TXD15 (out), 56 RXD15 (in), 57 TXD8 (out), 58 RXD8 (in), 59 RXD2 (in), 60 TXD2 (out), 61 VCC (power), 62 GND (power), 63 TXD1 (out), 64 RXD1 (in), 65 TXD5 (out), 66 RXD5 (in), 67 TXD6 (out), 68 RXD6 (in), 69 TXD7 (out), 70 RXD7 (in), 71 TXD0 (out), 72 RXD0 (in), 73 GND (power), 74 VCC (power), 75 INTA (hiz), 76 RST (in), 77 CLK (in), 78 AD31 (io), 79 AD30 (io), 80 AD29 (io), 81 AD28 (io), 82 AD27 (io), 83 AD26 (io), 84 AD25 (io), 85 AD24 (io), 86 CBE3 (in), 87 IDSEL (in), 88 AD23 (io), 89 AD22 (io), 90 AD21 (io), 91 AD20 (io), 92 AD19 (io), 93 AD18 (io), 94 AD17 (io), 95 AD16 (io), 96 CBE2 (in), 97 FRAME (in), 98 VCC (power), 99 GND (power), 100 TRDY (hiz)

## CH360A
designator U?
PCIe Device embed FlashROM for Expansion ROM
footprint SOP28
pins: 1 VCC33 (power), 2 PERST# (in), 3 PECKP (in), 4 PECKN (in), 5 VCC18A (power), 6 RREF (io), 7 PERP (in), 8 PERN (in), 9 VCC18A (power), 10 PETN (out), 11 PETP (out), 12 VCC33 (power), 13 SCL (out), 14 VCC33 (power), 15 GND (power), 16 SDX (io), 18 SDX0 (hiz), 19 GND (power), 20 VCC18 (power), 21 GND (power), 22 GPI2 (in), 23 GPI1 (in), 24 VCC18 (power), 25 GND (power), 26 VCC33 (power), 27 XCS (out), 28 GND (power)

## CH360S
designator U?
PCIe Device for Expansion ROM
footprint SOP28
pins: 2 VCC33 (power), 3 PERST# (in), 4 PECKP (in), 5 PECKN (in), 6 VCC18A (power), 7 GND (power), 8 PERP (in), 9 PERN (in), 10 VCC18A (power), 11 PETN (out), 12 PETP (out), 13 VCC33 (power), 14 SCL (out), 15 SDA (io), 16 SDX (io), 17 SCS (out), 18 VCC18 (power), 19 GND (power), 20 RREF (io), 21 GPI2 (in), 22 GPI1 (in), 23 VCC18 (power), 24 GND (power), 27 VCC33 (power), 28 GND (power)

## CH364F
designator U?
Flash ROM, Member of CH364/CH366 chipsets
footprint SOP8
pins: 1 CS# (in), 2 DX (out), 3 WP# (in), 4 GND (power), 5 DX (in), 6 SCL (in), 7 VCC (power), 8 VCC (power)

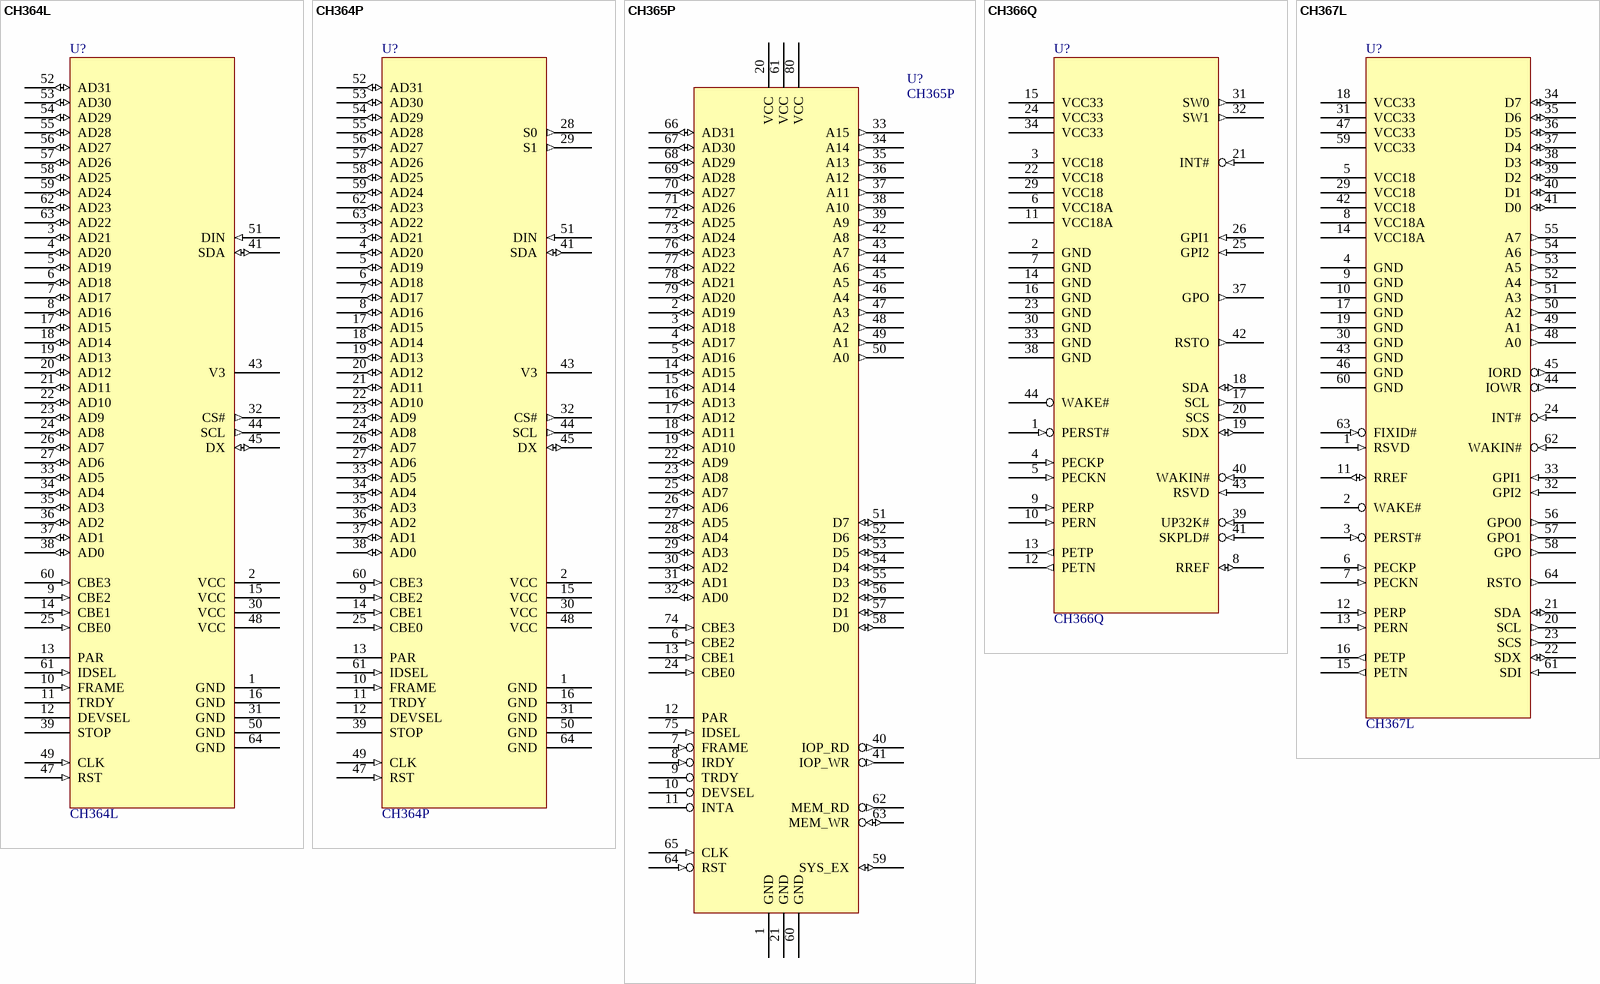
[diagram p27: symbols CH364L to CH367L]

## CH364L
designator U?
PCI Device / Slave Embedded Flash ROM, for Expansion ROM
footprint QFP64
pins: 1 GND (power), 2 VCC (power), 3 AD21 (io), 4 AD20 (io), 5 AD19 (io), 6 AD18 (io), 7 AD17 (io), 8 AD16 (io), 9 CBE2 (in), 10 FRAME (in), 11 TRDY (hiz), 12 DEVSEL (hiz), 13 PAR (hiz), 14 CBE1 (in), 15 VCC (power), 16 GND (power), 17 AD15 (io), 18 AD14 (io), 19 AD13 (io), 20 AD12 (io), 21 AD11 (io), 22 AD10 (io), 23 AD9 (io), 24 AD8 (io), 25 CBE0 (in), 26 AD7 (io), 27 AD6 (io), 30 VCC (power), 31 GND (power), 32 CS# (out), 33 AD5 (io), 34 AD4 (io), 35 AD3 (io), 36 AD2 (io), 37 AD1 (io), 38 AD0 (io), 39 STOP (hiz), 41 SDA (io), 43 V3 (power), 44 SCL (out), 45 DX (io), 47 RST (in), 48 VCC (power), 49 CLK (in), 50 GND (power), 51 DIN (in), 52 AD31 (io), 53 AD30 (io), 54 AD29 (io), 55 AD28 (io), 56 AD27 (io), 57 AD26 (io), 58 AD25 (io), 59 AD24 (io), 60 CBE3 (in), 61 IDSEL (in), 62 AD23 (io), 63 AD22 (io), 64 GND (power)